# Altium schematic symbol library RD3399-20181013_Library.SchLib: 411 symbols (part 3 of 13)
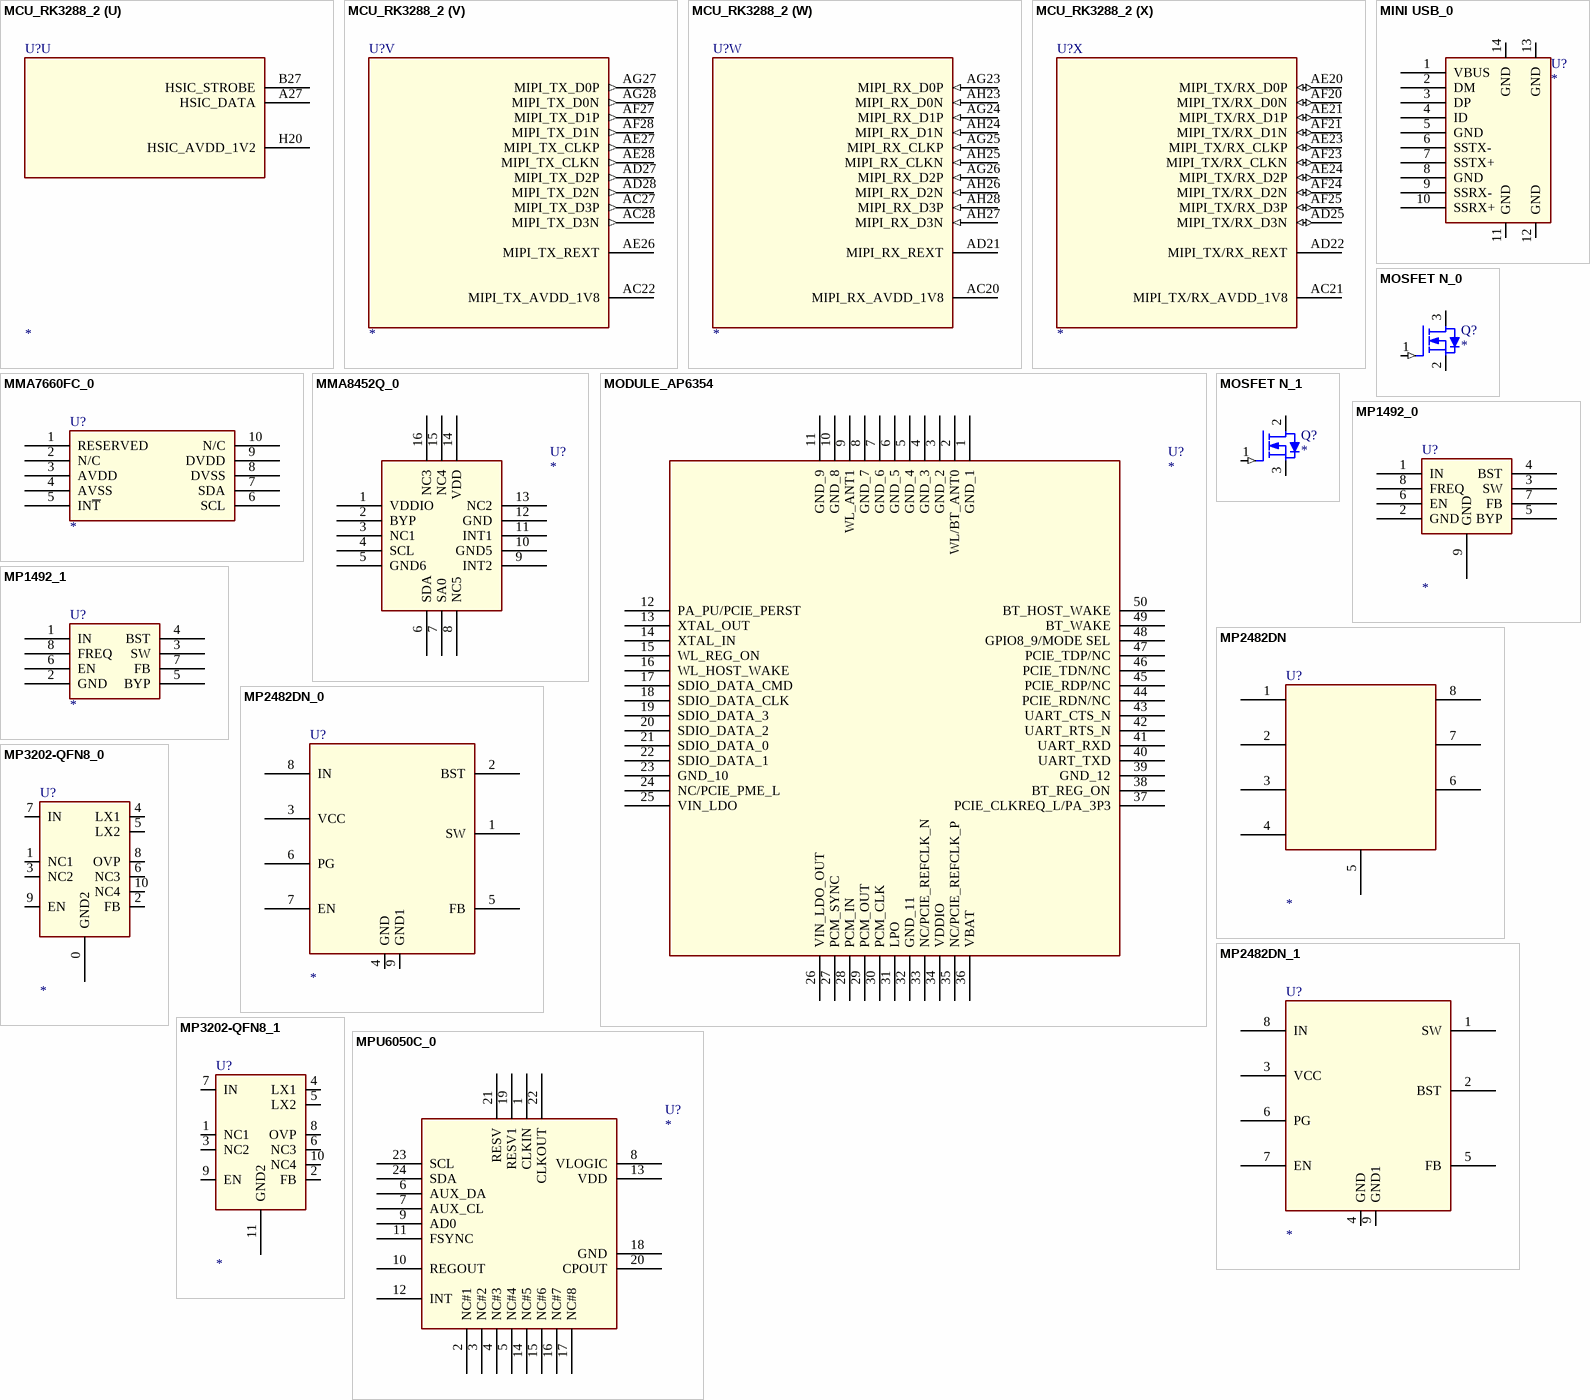
[diagram p187: symbols MCU_RK3288_2 to MPU6050C_0]

## MCU_RK3288_2
designator U?
footprint BGA453-19X19
part A pins: AA20 LVDS_AVDD_1V0 (power), AA22 LCDC0_DEN/GPIO1_D2_d (io), AA23 LCDC0_HSYNC/GPIO1_D0_d (io), AA24 LCDC0_DCLK/GPIO1_D3_d (io), AA25 TRACE_CLK/LCDC0_D16/LVDS_D7P (io), AA26 TRACE_CTL/LCDC0_D17/LVDS_D7N (io), AA27 TRACE_D8/LCDC0_D8/LVDS_D4P (io), AA28 TRACE_D9/LCDC0_D9/LVDS_D4N (io), AB21 LVDS_AVDD_1V8 (power), AB23 LVDS_AVDD_3V3 (power), AB24 LCDC0_VSYNC/GPIO1_D1_d (io), AB27 LCDC0_D18/LVDS_D8P (io), AB28 LCDC0_D19/LVDS_D8N (io), AC25 LCDC0_D20/LVDS_D9P (io), AC26 LCDC0_D21/LVDS_D9N (io), T27 TRACE_D0/LCDC0_D0/LVDS_D0P (io), T28 TRACE_D1/LCDC0_D1/LVDS_D0N (io), U25 TRACE_D12/LCDC0_D12/LVDS_D5P (io), U26 TRACE_D13/LCDC0_D13/LVDS_D5N (io), U27 TRACE_D2/LCDC0_D2/LVDS_D1P (io), U28 TRACE_D3/LCDC0_D3/LVDS_D1N (io), V24 LVDS_EXTR, V25 TRACE_D14/LCDC0_D14/LVDS_D6P (io), V26 TRACE_D15/LCDC0_D15/LVDS_D6N (io), V27 TRACE_D10/LCDC0_D10/LVDS_CLK0P (io), V28 TRACE_D11/LCDC0_D11/LVDS_CLK0N (io), W27 TRACE_D4/LCDC0_D4/LVDS_D2P (io), W28 TRACE_D5/LCDC0_D5/LVDS_D2N (io), Y25 LCDC0_D22/LVDS_CLK1P (io), Y26 LCDC0_D23/LVDS_CLK1N (io), Y27 TRACE_D6/LCDC0_D6/LVDS_D3P (io), Y28 TRACE_D7/LCDC0_D7/LVDS_D3N (io)
part B pins: AB9 JTAG_TCK/SDMMC0_D3/GPIO6_C3_u (io), AC8 SDMMC0_CMD/GPIO6_C5_u (io), AC9 SDMMC0_VDD (power), AD8 JTAG_TDI/SDMMC0_D2/GPIO6_C2_u (io), AG6 JTAG_TDO/SDMMC0_CLKOUT/GPIO6_C4_d (io), AG7 JTAG_TMS/SDMMC0_D0/GPIO6_C0_u (io), AH5 SDMMC0_DET/GPIO6_C6_u (io), AH6 JTAG_TRSTN/SDMMC0_D1/GPIO6_C1_u (io)
part C pins: P22 I2C3_SCL/GPIO2_C0_u (io), R21 CIF_D11/GPIO2_B7_d (io), R22 HOST_WKREQ/TS_FAIL/CIF_CLKOUT/GPIO2_B3_d (io), R23 I2C3_SDA/GPIO2_C1_u (io), R24 CIF_D10/GPIO2_B6_d (io), R25 HOST_D6/TS_SYNC/CIF_VSYNC/GPIO2_B0_d (io), R26 CIF_D1/GPIO2_B5_d (io), R27 CIF_D0/GPIO2_B4_d (io), R28 HOST_D7/TS_VALID/CIF_HREF/GPIO2_B1_d (io), U20 DVPIO_VDD (power), U21 HOST_CKINN/TS_D5/CIF_D7/GPIO2_A5_d (io), U22 HOST_CKINP/TS_D4/CIF_D6/GPIO2_A4_d (io), U23 HOST_D4/TS_D6/CIF_D8/GPIO2_A6_d (io), V21 HOST_D3/TS_D3/CIF_D5/GPIO2_A3_d (io), V22 HOST_WKACK/GPS_CLK/TS_CLKOUT/CIF_CLKIN/GPIO2_B2_d (io), V23 HOST_D5/TS_D7/CIF_D9/GPIO2_A7_d (io), Y21 HOST_D1/TS_D1/CIF_D3/GPIO2_A1_d (io), Y22 HOST_D2/TS_D2/CIF_D4/GPIO2_A2_d (io), Y23 HOST_D0/TS_D0/CIF_D2/GPIO2_A0_d (io)
part D pins: J26 DDRIO_RETEN/PMUGPIO0_A2_u (io), J27 DDRIO_PWROFF/PMUGPIO0_A1_d (io), J28 GLOBAL_PWROFF/PMUGPIO0_A0_d (io), K27 EFUSE_PWREN/PMUGPIO0_A3_u (io), K28 PMUGPIO0_A4_u, L21 PMUGPIO0_A5_u, L22 PMUGPIO0_A6_u (io), L23 PMUGPIO0_A7_u (io), L24 PMUGPIO0_B0_u, L25 PMUGPIO0_B1_u, L26 OTP_OUT/PMUGPIO0_B2_d (io), L27 PMUGPIO0_B3_d (io), L28 CLK27M_IN/PMUGPIO0_B5_d (io), M20 PMU_VDD_1V0 (power), M21 I2C0_SCL/PMUGPIO0_C0_u (io), M22 PMUGPIO0_B6_d (io), M23 TEST_CLKO/CLK_27M_T1/PMUGPIO0_C1_d (io), M24 PMUGPIO0_C2_u (io), M25 I2C0_SDA/PMUGPIO0_B7_u (io), M26 TEST, M27 NPOR (in), M28 PMUGPIO0_B4_d (io), N27 OSC_XI (in), N28 OSC_XO (out), P19 EFUSE_VQPS (power), P20 PUMIO_VDD (power), P25 CLKIN_32K (in), P26 OSC_XVSS (power), P27 PLL_AVSS (power), P28 PLL_AVDD_1V0 (power)
part E pins: A22 HOST2_DM (io), A23 HOST1_DM (io), A26 OTG_DM (io), B21 USB_AVSS4 (power), B22 HOST2_DP (io), B23 HOST1_DP (io), B26 OTG_DP (io), C21 HOST2_EXTR, C23 HOST1_EXTR, C24 USB_AVSS2 (power), C25 OTG_ID, C26 USB_AVSS3 (power), D21 OTG_EXTR, D23 OTG_VBUS, E21 USB_AVDD_1V8 (power), F20 USB_AVDD_3V3 (power), G18 USB_AVDD_1V0 (power), H18 USB_AVSS1 (power)
part F pins: D28 GPIO7_A2_d (io), E26 GPIO7_A4_u (io), E27 GPS_MAG/HSADC_D0_T1/UART3_RX/GPIO7_A7_u, E28 eDP_HOTPLUG/GPIO7_B3_d (io), F25 GPIO7_A3_d (io), F26 GPIO7_A6_u (io), F27 UART3_RTSn/GPIO7_B2_u (io), F28 ISP_PRELIGHTTRIG/SPI1_RXD/GPIO7_B6_d (io), G23 PWM1/GPIO7_A1_d (io), G24 GPIO7_A5_d (io), G27 ISP_SHUTTERTRIG/SPI1_TXD/GPIO7_B7_d (io), G28 ISP_FLASHTRIGIN/EDPHDMI_CEC_T1/GPIO7_C0_u (io), H22 PWM0/GPIO7_A0_d (io), H23 GPS_RFCLK/GPS_CLK_T1/UART3_CTSn/GPIO7_B1_u (io), H24 ISP_FLASHTRIGOUT/SPI1_CSN0/GPIO7_B5_u (io), H25 I2C4_SDA/GPIO7_C1_u (io), H26 I2C5_SDA/EDPHDMI_I2C_SDA/GPIO7_C3_u (io), H27 GPIO7_C5_d (io), H28 UART2_TX/IR_TX/PWM3/EDPHDMI_CEC/GPIO7_C7_u (io), J21 GPS_SIG/HSADC_D1_T1/UART3_TX/GPIO7_B0_d (io), J22 ISP_SHUTTEREN/SPI1_CLK/GPIO7_B4_d (io), J23 I2C4_SCL/GPIO7_C2_u (io), J24 I2C5_SCL/EDPHDMI_I2C_SCL/GPIO7_C4_u (io), J25 UART2_RX/IR_RX/PWM2/GPIO7_C6_u, L20 APIO1_VDD (power)
part G pins: A28 I2C1_SDA/SC_RST/GPIO8_A4_u (io), B28 SPI2_CSn1/SC_IO/GPIO8_A3_u (io), C27 PS2_DATA/GPIO8_A1_u (io), C28 SPI2_TXD/SC_CLK_T1/GPIO8_B1_d (io), D24 PS2_CLK/GPIO8_A0_u (io), D26 SPI2_CLK/SC_IO_T1/GPIO8_A6_d (io), D27 SPI2_CSn0/SC_DET_T1/GPIO8_A7_u (io), E22 BS_JTAG_TRSTn (out), E23 BS_JTAG_TCK (out), E25 I2C1_SCL/SC_CLK/GPIO8_A5_u (io), F21 BS_JTAG_TDI (in), F22 BS_JTAG_TDO (out), F24 SPI2_RXD/SC_RST_T1/GPIO8_B0_d (io), G20 BS_JTAG_TMS (out), G21 SC_DET/GPIO8_A2_u (io), J20 APIO2_VDD (power)
part H pins: AA11 APIO3_VDD (power), AB11 UART0_RTSn/GPIO4_C3_u (io), AB12 UART0_CTSn/GPIO4_C2_u (io), AC11 SDIO0_PWR/GPIO4_D4_d (io), AD9 GPIO4_D7_u (io), AE8 SDIO0_INTn/GPIO4_D6_u (io), AE9 SDIO0_WP/GPIO4_D3_d (io), AF8 SDIO0_BKPWR/GPIO4_D5_d (io), AF9 SDIO0_DET/GPIO4_D2_u (io), AG8 SDIO0_CLKOUT/GPIO4_D1_d (io), AG9 SDIO0_D2/GPIO4_C6_u (io), AG10 UART0_TXD/GPIO4_C1_d (io), AH7 SDIO0_D3/GPIO4_C7_u (io), AH8 SDIO0_CMD/GPIO4_D0_u (io), AH9 SDIO0_D0/GPIO4_C4_u (io), AH10 SDIO0_D1/GPIO4_C5_u (io), AH11 UART0_RXD/GPIO4_C0_u (io)
part I pins: AC12 I2S_CLK/GPIO6_B0_d (io), AD11 I2S_SCLK/GPIO6_A0_d (io), AD12 I2C2_SCL/GPIO6_B2_u (io), AE11 I2S_SDI/GPIO6_A3_d (io), AE12 SPDIF_TX/GPIO6_B3_d (io), AF11 I2S_LRCK_TX/GPIO6_A2_d (io), AF12 I2C2_SDA/GPIO6_B1_u (io), AG11 I2S_LRCK_RX/GPIO6_A1_d (io), AG12 I2S_SDO0/GPIO6_A4_d (io), AG13 I2S_SDO2/GPIO6_A6_d (io), AH12 I2S_SDO3/GPIO6_A7_d (io), AH13 I2S_SDO1/GPIO6_A5_d (io), Y12 APIO4_VDD (power)
part J pins: AA7 UART1_TX/TS0_D1/GPIO5_B1_d (io), AA9 TS0_VALID/GPIO5_C1_d (io), AB8 TS0_ERR/GPIO5_C3_d (io), AC7 SPI0_CSn0/UART4_RTSn/TS0_D5/GPIO5_B5_u (io), AD6 UART1_RTSn/TS0_D3/GPIO5_B3_u (io), AD7 SPI0_CLK/UART4_CTSn/TS0_D4/GPIO5_B4_u (io), AE5 SPI0_TXD/UART4_TX/TS0_D6/GPIO5_B6_d, AE6 TS0_CLK/GPIO5_C2_d (io), AF5 UART1_RX/TS0_D0/GPIO5_B0_u, AF6 SPI0_RXD/UART4_RX/TS0_D7/GPIO5_B7_u, AG5 SPI0_CSn1/TS0_SYNC/GPIO5_C0_u (io), AH4 UART1_CTSn/TS0_D2/GPIO5_B2_u (io), Y11 APIO5_VDD (power)
part K pins: A1 DDR0_DQ25 (io), A2 DDR0_DQ24 (io), A3 DDR0_DQ10 (io), A4 DDR0_DQS3n (out), A5 DDR0_DQ9 (io), A6 DDR0_DQ13 (io), A7 DDR0_DQS1n (out), A8 DDR0_CASn (out), A9 DDR0_BA1 (out), A10 DDR0_A2 (out), A11 DDR0_CLKn (out), A12 DDR0_A7 (out), A13 DDR0_A10 (out), A14 DDR0_A9 (out), A15 DDR0_DM2 (out), A16 DDR0_DQ17 (io), A17 DDR0_DQS2n (out), A18 DDR0_DQ23 (io), A19 DDR0_DQ4 (io), A20 DDR0_DQS0 (out), B3 DDR0_DM3 (out), B4 DDR0_DQS3 (out), B5 DDR0_DQ8 (io), B6 DDR0_DQ14 (io), B7 DDR0_DQS1 (out), B8 DDR0_CSn0 (out), B9 DDR0_WEn (out), B10 DDR0_A0 (out), B11 DDR0_CLK (out), B12 DDR0_A5 (out), B13 DDR0_A8 (out), B14 DDR0_A14 (out), B15 DDR0_DQ16 (io), B16 DDR0_DQ19 (io), B17 DDR0_DQS2 (out), B18 DDR0_DQ21 (io), B19 DDR0_DQ0 (io), B20 DDR0_DQS0n (out), C4 DDR0_DQ30 (io), C5 DDR0_DQ28 (io), C6 DDR0_DQ11 (io), C8 DDR0_CKE1 (out), C9 DDR0_CKE0 (out), C11 DDR0_A1 (out), C12 DDR0_A6 (out), C14 DDR0_A13 (out), C15 DDR0_A15 (out), C17 DDR0_DQ22 (io), C18 DDR0_DQ1 (io), C20 DDR0_DQ6 (io), D5 DDR0_DQ26 (io), D8 DDR0_BA0 (out), D11 DDR0_RASn (out), D14 DDR0_A11 (out), D17 DDR0_DQ20 (io), D20 DDR0_DQ7 (io), E6 DDR0_DQ27 (io), E7 DDR0_DQ31 (io), E8 DDR0_DQ12 (io), E9 DDR0_RESET (out), E11 DDR0_BA2 (out), E12 DDR0_A3 (out), E14 DDR0_ODT0 (out), E15 DDR0_ODT1 (out), E17 DDR0_DM0 (out), E18 DDR0_DQ5 (io), F7 DDR0_DQ29 (io), F8 DDR0_DQ15 (io), F9 DDR0_DM1 (out), F11 DDR0_CSn1 (out), F12 DDR0_A4 (out), F14 DDR0_A12 (out), F15 DDR0_DQ18 (io), F17 DDR0_DQ2 (io), F18 DDR0_DQ3 (io), G8 DDR0_RETLE, G11 NC3, G12 DDR0_ATO, G14 NC1, G15 NC2, G17 DDR0_PZQ, H9 DDR0_VDD1 (power), H11 DDR0_VREFAO (power), H12 DDR0_VREF (power), H14 DDR0_VDDAO (power), H15 DDR0_DTO1, H17 DDR0_DTO0, J11 DDR0_VDD2 (power), J12 DDR0_VDD3 (power), J14 DDR0_VDD4 (power), J15 DDR0_VDD5 (power)
part L pins: AA1 DDR1_DQS0n (out), AA2 DDR1_DQS0 (out), B1 DDR1_DQ24 (io), B2 DDR1_DQ25 (io), C1 DDR1_DQ10 (io), C2 DDR1_DQ30 (io), D1 DDR1_DQS3n (out), D2 DDR1_DQS3 (out), D3 DDR1_DM3 (out), E1 DDR1_DQ9 (io), E2 DDR1_DQ8 (io), E3 DDR1_DQ28 (io), E4 DDR1_DQ26 (io), F1 DDR1_CKE0 (out), F2 DDR1_RESET (out), F3 DDR1_DQ11 (io), F5 DDR1_DQ29 (io), G1 DDR1_DQS1n (out), G2 DDR1_DQS1 (out), G5 DDR1_DM1 (out), G6 DDR1_DQ27 (io), H1 DDR1_CASn (out), H2 DDR1_CSn0 (out), H3 DDR1_CKE1 (out), H4 DDR1_DQ13 (io), H5 DDR1_DQ12 (io), H6 DDR1_DQ31 (io), H7 DDR1_RETLE, J1 DDR1_BA1 (out), J2 DDR1_WEn (out), J3 DDR1_CSn1 (out), J5 DDR1_DQ14 (io), J6 DDR1_DQ15 (io), J8 DDR1_VDD1 (power), K1 DDR1_A2 (out), K2 DDR1_A1 (out), L1 DDR1_CLKn (out), L2 DDR1_CLK (out), L3 DDR1_A0 (out), L4 DDR1_BA0 (out), L5 DDR1_BA2 (out), L6 DDR1_RASn (out), L7 NC6, L8 DDR1_VREFAO (power), L9 DDR1_VDD2 (power), M1 DDR1_A6 (out), M2 DDR1_A5 (out), M3 DDR1_A7 (out), M5 DDR1_A3 (out), M6 DDR1_A4 (out), M7 DDR1_ATO, M8 DDR1_VREF (power), M9 DDR1_VDD3 (power), N1 DDR1_A8 (out), N2 DDR1_A10 (out), P1 DDR1_A9 (out), P2 DDR1_A14 (out), P3 DDR1_A13 (out), P4 DDR1_A11 (out), P5 DDR1_ODT0 (out), P6 DDR1_A12 (out), P7 NC4, P8 DDR1_VDDAO (power), P9 DDR1_VDD4 (power), R1 DDR1_A15 (out), R2 DDR1_ODT1 (out), R3 DDR1_DM2 (out), R5 DDR1_DQ19 (io), R6 DDR1_DQ17 (io), R7 NC5, R8 DDR1_DTO1, R9 DDR1_VDD5 (power), T1 DDR1_DQ18 (io), T2 DDR1_DQ16 (io), U1 DDR1_DQS2n (out), U2 DDR1_DQS2 (out), U3 DDR1_DQ22 (io), U4 DDR1_DQ20 (io), U5 DDR1_DM0 (out), U6 DDR1_DQ3 (io), U7 DDR1_PZQ, U8 DDR1_DTO0, V1 DDR1_DQ21 (io), V2 DDR1_DQ23 (io), V3 DDR1_DQ1 (io), V5 DDR1_DQ6 (io), W1 DDR1_DQ4 (io), W2 DDR1_DQ0 (io), Y1 DDR1_DQ2 (io), Y2 DDR1_DQ5 (io), Y3 DDR1_DQ7 (io)
part M pins: A21 VSS9 (power), AC24 VSS11 (power), C3 VSS1 (power), D6 VSS2 (power), D9 VSS3 (power), D12 VSS4 (power), D15 VSS5 (power), D18 VSS6 (power), E20 VSS7 (power), F4 VSS12 (power), J4 VSS13 (power), J9 VSS14 (power), J17 VSS16 (power), J18 VSS28 (power), K10 VSS18 (power), K11 VSS19 (power), K12 VSS20 (power), K13 VSS21 (power), K14 VSS22 (power), K15 VSS23 (power), K16 VSS24 (power), K17 VSS25 (power), K18 VSS26 (power), K19 VSS27 (power), L10 VSS29 (power), L11 VSS30 (power), L13 VSS31 (power), L14 VSS32 (power), L15 VSS33 (power), M4 VSS34 (power), M10 VSS35 (power), M11 VSS36 (power), M13 VSS37 (power), M14 VSS38 (power), N10 VSS40 (power), N11 VSS41 (power), N13 VSS42 (power), N14 VSS43 (power), N15 VSS44 (power), P10 VSS45 (power), P11 VSS46 (power), P13 VSS47 (power), P14 VSS48 (power), P15 VSS49 (power), P16 VSS50 (power), P17 VSS51 (power), P18 VSS52 (power), R4 VSS53 (power), R10 VSS54 (power), R13 VSS55 (power), R14 VSS61 (power), R15 VSS71 (power), R16 VSS56 (power), R17 VSS57 (power), R18 VSS58 (power), R19 VSS59 (power), T10 VSS60 (power), T13 VSS62 (power), T15 VSS64 (power), T16 VSS65 (power), T17 VSS66 (power), T18 VSS67 (power), T19 VSS68 (power), U9 VSS15 (power), U10 VSS70 (power), U13 VSS72 (power), U24 VSS8 (power), V4 VSS73 (power), V9 VSS69 (power), V10 VSS74 (power), V11 VSS75 (power), V12 VSS76 (power), V13 VSS77 (power), W10 VSS17 (power), W11 VSS78 (power), W12 VSS79 (power), W13 VSS80 (power), W14 VSS81 (power), W15 VSS82 (power), W16 VSS83 (power), W17 VSS84 (power), W18 VSS85 (power), W19 VSS86 (power), Y18 VSS39 (power), Y20 VSS63 (power), Y24 VSS10 (power)
part N pins: AA12 eDP_TP_OUT, AA17 eDP_AVDD_1V8 (power), AC17 eDP_CLK24M_IN, AC18 eDP_EXTR, AG14 eDP_TX0P (out), AG15 eDP_TX1P (out), AG16 eDP_TX2P (out), AG17 eDP_TX3P (out), AG18 eDP_AXUP (out), AH14 eDP_TX0N (out), AH15 eDP_TX1N (out), AH16 eDP_TX2N (out), AH17 eDP_TX3N (out), AH18 eDP_AXUN (out), Y17 eDP_AVDD_1V0 (power)
part O pins: AA18 HDMI_AVDD_1V0 (power), AB17 HDMI_EXTR, AB18 HDMI_HPD_d, AB20 HDMI_AVDD_1V8 (power), AD20 AVSS5 (power), AD23 AVSS6 (power), AD26 AVSS7 (power), AF14 AVSS1 (power), AF15 AVSS2 (power), AF17 AVSS3 (power), AF18 AVSS4 (power), AF26 AVSS8 (power), AG19 HDMI_TXCP (out), AG20 HDMI_TX0P (out), AG21 HDMI_TX1P (out), AG22 HDMI_TX2P (out), AH19 HDMI_TXCN (out), AH20 HDMI_TX0N (out), AH21 HDMI_TX1N (out), AH22 HDMI_TX2N (out)
part P pins: AB6 FLASH0_DQS/EMMC_CLKOUT/GPIO3_C2_d (io), AC4 FLASH0_CSn2/EMMC_CMD/GPIO3_C0_u (io), AC5 FLASH0_CSn0/GPIO3_B6_u (io), AD3 FLASH0_D1/EMMC_D1/GPIO3_A1_u (io), AD4 FLASH0_CSn1/GPIO3_B7_u (io), AE3 FLASH0_D0/EMMC_D0/GPIO3_A0_u (io), AF1 FLASH0_D3/EMMC_D3/GPIO3_A3_u (io), AF2 FLASH0_D4/EMMC_D4/GPIO3_A4_u (io), AF3 FLASH0_D2/EMMC_D2/GPIO3_A2_u (io), AF4 FLASH0_ALE/GPIO3_B3_d (io), AG1 FLASH0_D6/EMMC_D6/GPIO3_A6_u (io), AG2 FLASH0_D7/EMMC_D7/GPIO3_A7_u (io), AG3 FLASH0_D5/EMMC_D5/GPIO3_A5_u (io), AG4 FLASH0_WRN/GPIO3_B5_u (io), AH1 FLASH0_WP/EMMC_PWREN/GPIO3_B1_d (io), AH2 FLASH0_RDY/GPIO3_B0_u (io), AH3 FLASH0_CLE/GPIO3_B4_d (io), Y6 FLASH0_RDN/GPIO3_B2_u (io), Y7 FLASH0_CSn3/EMMC_RSTNOUT/GPIO3_C1_u (io), Y8 FLASH0_VOLTAGE_SEL/GPIO3_C3_d (io), Y9 FLASH0_VDD (power)
part Q pins: AA3 HOST_D6/MAC_RXD0/SDIO1_BKPWR/FLASH1_D6/GPIO3_D6_u (io), AA4 HOST_D7/MAC_RXD1/SDIO1_INTn/FLASH1_D7/GPIO3_D7_u (io), AA5 HOST_D14/MAC_COL/FLASH1_DQS/FLASH1_CSn3/GPIO4_B0_u (io), AA6 HOST_D13/MAC_CRS/SDIO1_CLKOUT/FLASH1_CSn1/GPIO4_A7_u (io), AB1 HOST_D2/MAC_RXD2/SDIO1_D2/FLASH1_D2/GPIO3_D2_u (io), AB2 HOST_D5/MAC_TXD1/SDIO1_WRPRT/FLASH1_D5/GPIO3_D5_u (io), AB5 HOST_D12/MAC_RXCLK/SDIO1_CMD/FLASH1_CSn0/GPIO4_A6_u (io), AC1 HOST_D3/MAC_RXD3/SDIO1_D3/FLASH1_D3/GPIO3_D3_u (io), AC2 HOST_CKOUTN/MAC_RXDV/FLASH0_CSn4/FLASH1_WP/GPIO4_A1_u (io), AC3 HOST_CKOUTP/MAC_MDC/FLASH1_RDY/GPIO4_A0_u (io), AD1 HOST_D4/MAC_TXD0/SDIO1_DET/FLASH1_D4/GPIO3_D4_u (io), AD2 HOST_D10/MAC_TXEN/FLASH0_CSn7/FLASH1_CLE/GPIO4_A4_u (io), AE1 HOST_D8/MAC_RXER/FLASH0_CSn5/FLASH1_RDN/GPIO4_A2_u (io), AE2 HOST_D9/MAC_CLK/FLASH0_CSn6/FLASH1_ALE/GPIO4_A3_u (io), V6 HOST_D1/MAC_TXD3/SDIO1_D1/FLASH1_D1/GPIO3_D1_u (io), V7 HOST_D15/MAC_TXCLK/SDIO1_PWREN/FLASH1_CSn2/GPIO4_B1_u (io), V8 FLASH1_VDD (power), Y4 HOST_D0/MAC_TXD2/SDIO1_D0/FLASH1_D0/GPIO3_D0_u (io), Y5 HOST_D11/MAC_MDIO/FLASH1_WRN/GPIO4_A5_u (io)
part R pins: L12 LOGIC_VDD1 (power), L16 GPU_VDD1 (power), L17 GPU_VDD2 (power), L18 GPU_VDD3 (power), L19 GPU_VDD4 (power), M12 LOGIC_VDD2 (power), M15 GPU_VDD_COM, M16 GPU_VDD5 (power), M17 GPU_VDD6 (power), M18 GPU_VDD7 (power), M19 GPU_VDD8 (power), N12 LOGIC_VDD3 (power), N16 GPU_VDD9 (power), N17 GPU_VDD10 (power), N18 GPU_VDD11 (power), N19 GPU_VDD12 (power), P12 LOGIC_VDD4 (power), R11 LOGIC_VDD8 (power), R12 LOGIC_VDD5 (power), T11 LOGIC_VDD9 (power), T12 LOGIC_VDD6 (power), T14 CPU_VDD_COM, U11 LOGIC_VDD10 (power), U12 LOGIC_VDD7 (power), U14 CPU_VDD1 (power), U15 CPU_VDD2 (power), U16 CPU_VDD3 (power), U17 CPU_VDD4 (power), U18 CPU_VDD5 (power), U19 CPU_VDD6 (power), V14 CPU_VDD7 (power), V15 CPU_VDD8 (power), V16 CPU_VDD9 (power), V17 CPU_VDD10 (power), V18 CPU_VDD11 (power), V19 CPU_VDD12 (power), V20 LCDC_VDD (power)
part S pins: A24 NC11 (in), A25 NC9 (out), AA14 NC28 (power), AA15 NC18 (power), AB14 NC14 (out), AB15 NC13 (out), AC14 NC16 (in), AC15 NC15 (in), AD14 NC20 (in), AD15 NC24 (out), AD17 NC22 (in), AD18 NC26 (out), AE14 NC19 (in), AE15 NC23 (out), AE17 NC21 (in), AE18 NC25 (out), B24 NC12 (in), B25 NC10 (out), G9 NC7, J7 NC8, Y14 NC27 (power), Y15 NC17 (power)
part T pins: P21 RECOVER/ADC_IN1 (in), P23 ADC_IN2 (in), P24 ADC_IN0 (in), R20 ADC_AVDD_1V8 (power)
part U pins: A27 HSIC_DATA, B27 HSIC_STROBE, H20 HSIC_AVDD_1V2 (power)
part V pins: AC22 MIPI_TX_AVDD_1V8 (power), AC27 MIPI_TX_D3P (out), AC28 MIPI_TX_D3N (out), AD27 MIPI_TX_D2P (out), AD28 MIPI_TX_D2N (out), AE26 MIPI_TX_REXT, AE27 MIPI_TX_CLKP (out), AE28 MIPI_TX_CLKN (out), AF27 MIPI_TX_D1P (out), AF28 MIPI_TX_D1N (out), AG27 MIPI_TX_D0P (out), AG28 MIPI_TX_D0N (out)
part W pins: AC20 MIPI_RX_AVDD_1V8 (power), AD21 MIPI_RX_REXT, AG23 MIPI_RX_D0P (in), AG24 MIPI_RX_D1P (in), AG25 MIPI_RX_CLKP (in), AG26 MIPI_RX_D2P (in), AH23 MIPI_RX_D0N (in), AH24 MIPI_RX_D1N (in), AH25 MIPI_RX_CLKN (in), AH26 MIPI_RX_D2N (in), AH27 MIPI_RX_D3N (in), AH28 MIPI_RX_D3P (in)
part X pins: AC21 MIPI_TX/RX_AVDD_1V8 (power), AD22 MIPI_TX/RX_REXT, AD25 MIPI_TX/RX_D3N (io), AE20 MIPI_TX/RX_D0P (io), AE21 MIPI_TX/RX_D1P (io), AE23 MIPI_TX/RX_CLKP (io), AE24 MIPI_TX/RX_D2P (io), AF20 MIPI_TX/RX_D0N (io), AF21 MIPI_TX/RX_D1N (io), AF23 MIPI_TX/RX_CLKN (io), AF24 MIPI_TX/RX_D2N (io), AF25 MIPI_TX/RX_D3P (io)
part A text: LCDC domain; LVDS domain

## MINI USB_0
designator U?
pins: 1 VBUS, 2 DM, 3 DP, 4 ID, 5 GND, 6 SSTX-, 7 SSTX+, 8 GND (power), 9 SSRX-, 10 SSRX+, 11 GND, 12 GND, 13 GND, 14 GND

## MMA7660FC_0
designator U?
pins: 1 RESERVED, 2 N/C, 3 AVDD, 4 AVSS, 5 IN~{T}, 6 SCL, 7 SDA, 8 DVSS, 9 DVDD, 10 N/C

## MMA8452Q_0
designator U?
footprint QFN16_COL
pins: 1 VDDIO, 2 BYP, 3 NC1, 4 SCL, 5 GND6, 6 SDA, 7 SA0, 8 NC5, 9 INT2, 10 GND5, 11 INT1, 12 GND, 13 NC2, 14 VDD, 15 NC4, 16 NC3

## MODULE_AP6354
designator U?
pins: 1 GND_1, 2 WL/BT_ANT0, 3 GND_2, 4 GND_3, 5 GND_4, 6 GND_5, 7 GND_6, 8 GND_7, 9 WL_ANT1, 10 GND_8, 11 GND_9, 12 PA_PU/PCIE_PERST, 13 XTAL_OUT, 14 XTAL_IN, 15 WL_REG_ON, 16 WL_HOST_WAKE, 17 SDIO_DATA_CMD, 18 SDIO_DATA_CLK, 19 SDIO_DATA_3, 20 SDIO_DATA_2, 21 SDIO_DATA_0, 22 SDIO_DATA_1, 23 GND_10, 24 NC/PCIE_PME_L, 25 VIN_LDO, 26 VIN_LDO_OUT, 27 PCM_SYNC, 28 PCM_IN, 29 PCM_OUT, 30 PCM_CLK, 31 LPO, 32 GND_11, 33 NC/PCIE_REFCLK_N, 34 VDDIO, 35 NC/PCIE_REFCLK_P, 36 VBAT, 37 PCIE_CLKREQ_L/PA_3P3, 38 BT_REG_ON, 39 GND_12, 40 UART_TXD, 41 UART_RXD, 42 UART_RTS_N, 43 UART_CTS_N, 44 PCIE_RDN/NC, 45 PCIE_RDP/NC, 46 PCIE_TDN/NC, 47 PCIE_TDP/NC, 48 GPIO8_9/MODE SEL, 49 BT_WAKE, 50 BT_HOST_WAKE

## MOSFET N_0
designator Q?
pins: 1 GATE (in), 2 SOURCE, 3 DRAIN

## MOSFET N_1
designator Q?
pins: 1 GATE (in), 2 DRAIN, 3 SOURCE

## MP1492_0
designator U?
footprint SOP8A
pins: 1 IN, 2 GND, 3 SW, 4 BST, 5 BYP, 6 EN, 7 FB, 8 FREQ, 9 GND

## MP1492_1
designator U?
footprint SOP8A
pins: 1 IN, 2 GND, 3 SW, 4 BST, 5 BYP, 6 EN, 7 FB, 8 FREQ

## MP2482DN
designator U?
pins: 1, 2, 3, 4, 5, 6, 7, 8

## MP2482DN_0
designator U?
pins: 1 SW, 2 BST, 3 VCC, 4 GND, 5 FB, 6 PG, 7 EN, 8 IN, 9 GND1

## MP2482DN_1
designator U?
pins: 1 SW, 2 BST, 3 VCC, 4 GND, 5 FB, 6 PG, 7 EN, 8 IN, 9 GND1

## MP3202-QFN8_0
designator U?
footprint QFN8-2X2
pins: 0 GND2, 1 NC1, 2 FB, 3 NC2, 4 LX1, 5 LX2, 6 NC3, 7 IN, 8 OVP, 9 EN, 10 NC4

## MP3202-QFN8_1
designator U?
footprint QFN8-2X2
pins: 1 NC1, 2 FB, 3 NC2, 4 LX1, 5 LX2, 6 NC3, 7 IN, 8 OVP, 9 EN, 10 NC4, 11 GND2

## MPU6050C_0
designator U?
pins: 1 CLKIN, 2 NC#1, 3 NC#2, 4 NC#3, 5 NC#4, 6 AUX_DA, 7 AUX_CL, 8 VLOGIC, 9 AD0, 10 REGOUT, 11 FSYNC, 12 INT, 13 VDD, 14 NC#5, 15 NC#6, 16 NC#7, 17 NC#8, 18 GND, 19 RESV1, 20 CPOUT, 21 RESV, 22 CLKOUT, 23 SCL, 24 SDA

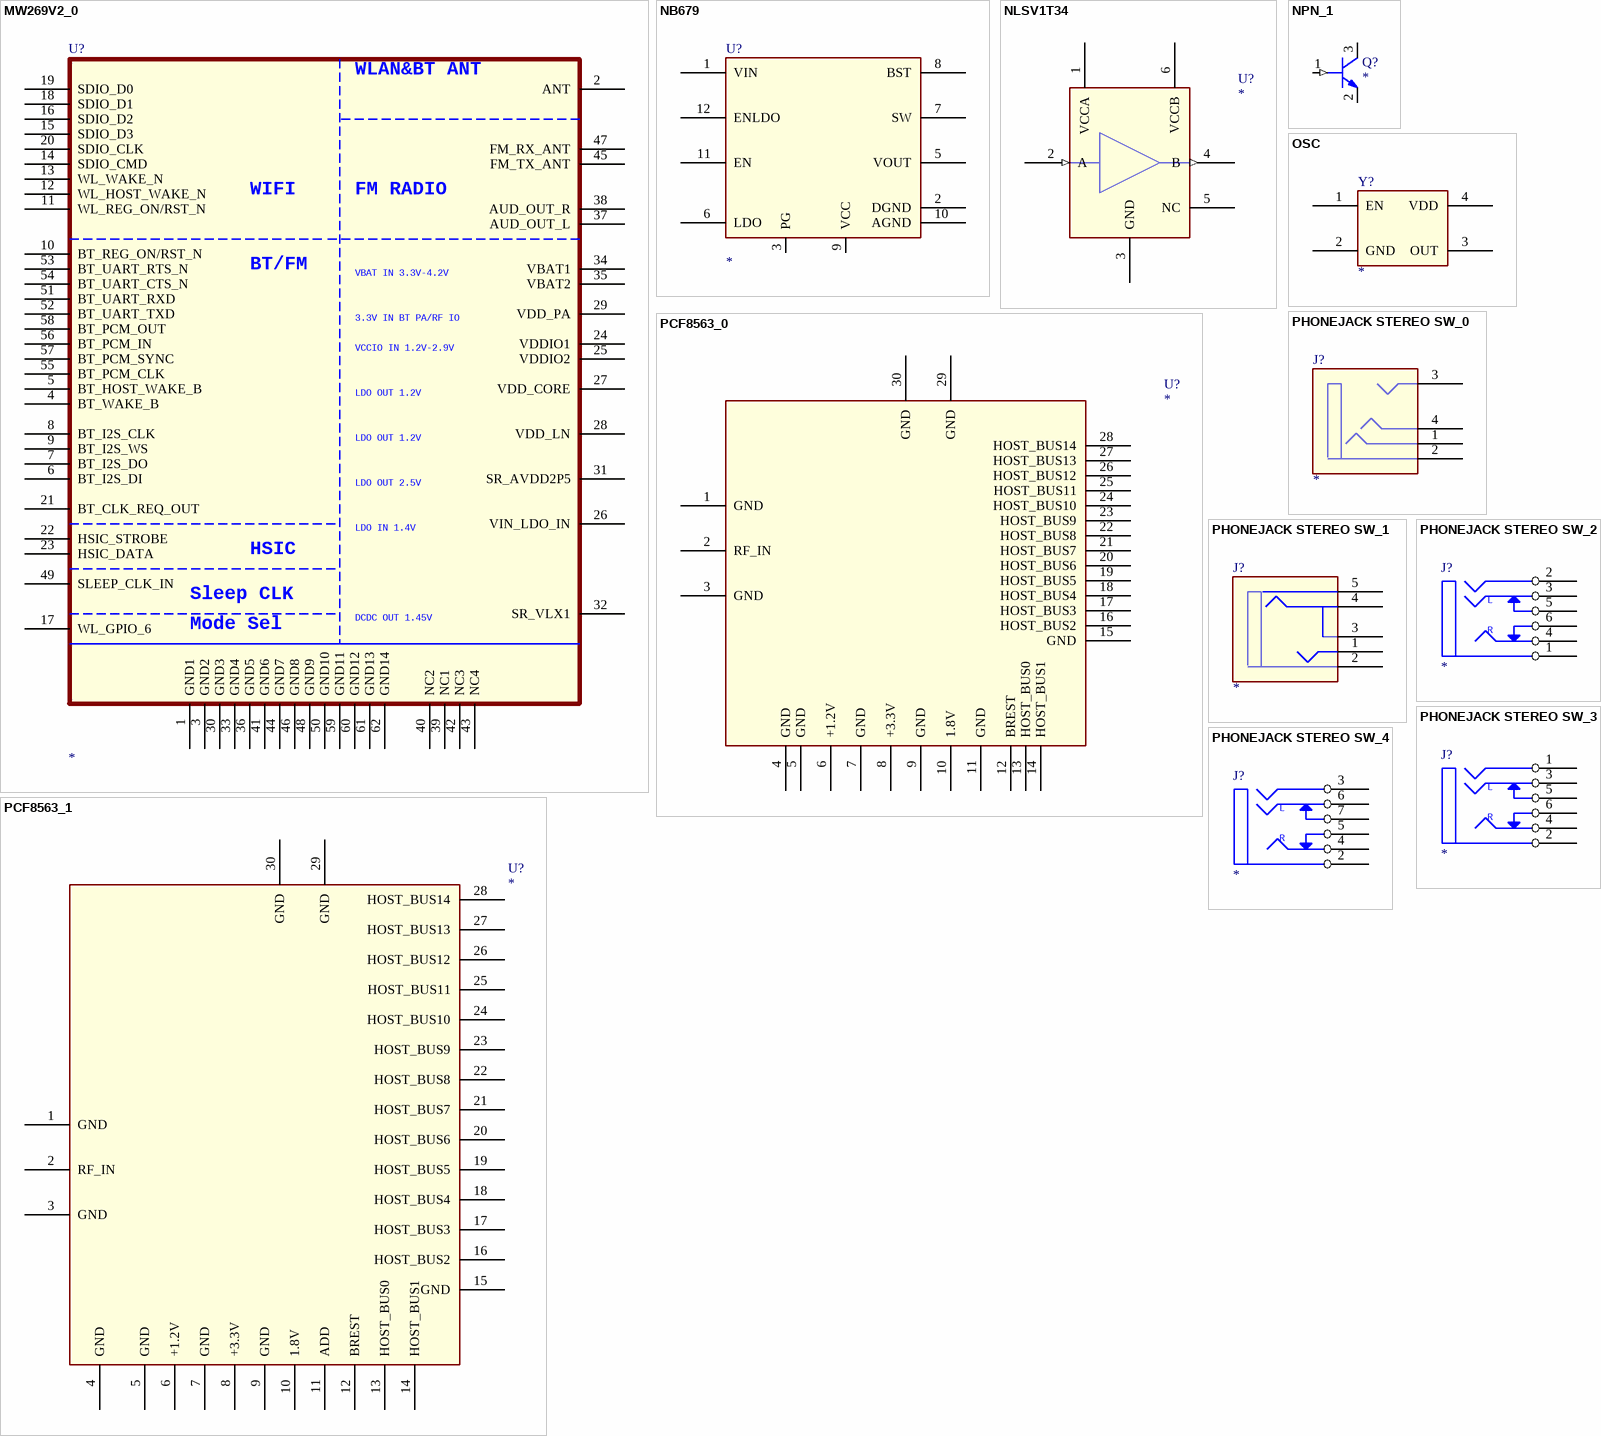
[diagram p25: symbols MW269V2_0 to PHONEJACK STEREO SW_4]

## MW269V2_0
designator U?
footprint MW269V2
pins: 1 GND1, 2 ANT, 3 GND2, 4 BT_WAKE_B, 5 BT_HOST_WAKE_B, 6 BT_I2S_DI, 7 BT_I2S_DO, 8 BT_I2S_CLK, 9 BT_I2S_WS, 10 BT_REG_ON/RST_N, 11 WL_REG_ON/RST_N, 12 WL_HOST_WAKE_N, 13 WL_WAKE_N, 14 SDIO_CMD, 15 SDIO_D3, 16 SDIO_D2, 17 WL_GPIO_6, 18 SDIO_D1, 19 SDIO_D0, 20 SDIO_CLK, 21 BT_CLK_REQ_OUT, 22 HSIC_STROBE, 23 HSIC_DATA, 24 VDDIO1, 25 VDDIO2, 26 VIN_LDO_IN, 27 VDD_CORE, 28 VDD_LN, 29 VDD_PA, 30 GND3, 31 SR_AVDD2P5, 32 SR_VLX1, 33 GND4, 34 VBAT1, 35 VBAT2, 36 GND5, 37 AUD_OUT_L, 38 AUD_OUT_R, 39 NC1, 40 NC2, 41 GND6, 42 NC3, 43 NC4, 44 GND7, 45 FM_TX_ANT, 46 GND8, 47 FM_RX_ANT, 48 GND9, 49 SLEEP_CLK_IN, 50 GND10, 51 BT_UART_RXD, 52 BT_UART_TXD, 53 BT_UART_RTS_N, 54 BT_UART_CTS_N, 55 BT_PCM_CLK, 56 BT_PCM_IN, 57 BT_PCM_SYNC, 58 BT_PCM_OUT, 59 GND11, 60 GND12, 61 GND13, 62 GND14
text: WLAN&BT ANT; WIFI; FM RADIO; BT/FM; VBAT IN 3.3V-4.2V; 3.3V IN BT PA/RF IO; VCCIO IN 1.2V-2.9V; LDO OUT 1.2V; LDO OUT 2.5V; LDO IN 1.4V; HSIC; Sleep CLK; DCDC OUT 1.45V; Mode Sel

## NB679
designator U?
pins: 1 VIN, 2 DGND, 3 PG, 5 VOUT, 6 LDO, 7 SW, 8 BST, 9 VCC, 10 AGND, 11 EN, 12 ENLDO

## NLSV1T34
designator U?
CLASS: IC
pins: 1 VCCA (power), 2 A (in), 3 GND (power), 4 B (out), 5 NC, 6 VCCB (power)

## NPN_1
designator Q?
pins: 1 BASE (in), 2 EMITTER, 3 COLLECT

## OSC
designator Y?
footprint OSC3225
pins: 1 EN, 2 GND, 3 OUT, 4 VDD

## PCF8563_0
designator U?
footprint SOP-8
pins: 1 GND, 2 RF_IN, 3 GND, 4 GND, 5 GND, 6 +1.2V, 7 GND, 8 +3.3V, 9 GND, 10 1.8V, 11 GND, 12 BREST, 13 HOST_BUS0, 14 HOST_BUS1, 15 GND, 16 HOST_BUS2, 17 HOST_BUS3, 18 HOST_BUS4, 19 HOST_BUS5, 20 HOST_BUS6, 21 HOST_BUS7, 22 HOST_BUS8, 23 HOST_BUS9, 24 HOST_BUS10, 25 HOST_BUS11, 26 HOST_BUS12, 27 HOST_BUS13, 28 HOST_BUS14, 29 GND, 30 GND
1 alternate drawing of the same symbol

## PCF8563_1
designator U?
footprint SOP-8
pins: 1 GND, 2 RF_IN, 3 GND, 4 GND, 5 GND, 6 +1.2V, 7 GND, 8 +3.3V, 9 GND, 10 1.8V, 11 ADD, 12 BREST, 13 HOST_BUS0, 14 HOST_BUS1, 15 GND, 16 HOST_BUS2, 17 HOST_BUS3, 18 HOST_BUS4, 19 HOST_BUS5, 20 HOST_BUS6, 21 HOST_BUS7, 22 HOST_BUS8, 23 HOST_BUS9, 24 HOST_BUS10, 25 HOST_BUS11, 26 HOST_BUS12, 27 HOST_BUS13, 28 HOST_BUS14, 29 GND, 30 GND
1 alternate drawing of the same symbol

## PHONEJACK STEREO SW_0
designator J?
pins: 1 HP, 2 COM, 3 L, 4 R

## PHONEJACK STEREO SW_1
designator J?
footprint PHONE-ST-0166MT-050
pins: 1 R, 2 COM, 3 HP, 4 L, 5

## PHONEJACK STEREO SW_2
designator J?
pins: 1 E, 2, 3 A, 4 D, 5 B, 6 C
text: L; R

## PHONEJACK STEREO SW_3
designator J?
pins: 1, 2 E, 3 A, 4 D, 5 B, 6 C
text: L; R

## PHONEJACK STEREO SW_4
designator J?
pins: 2, 3, 4, 5, 6, 7
text: L; R

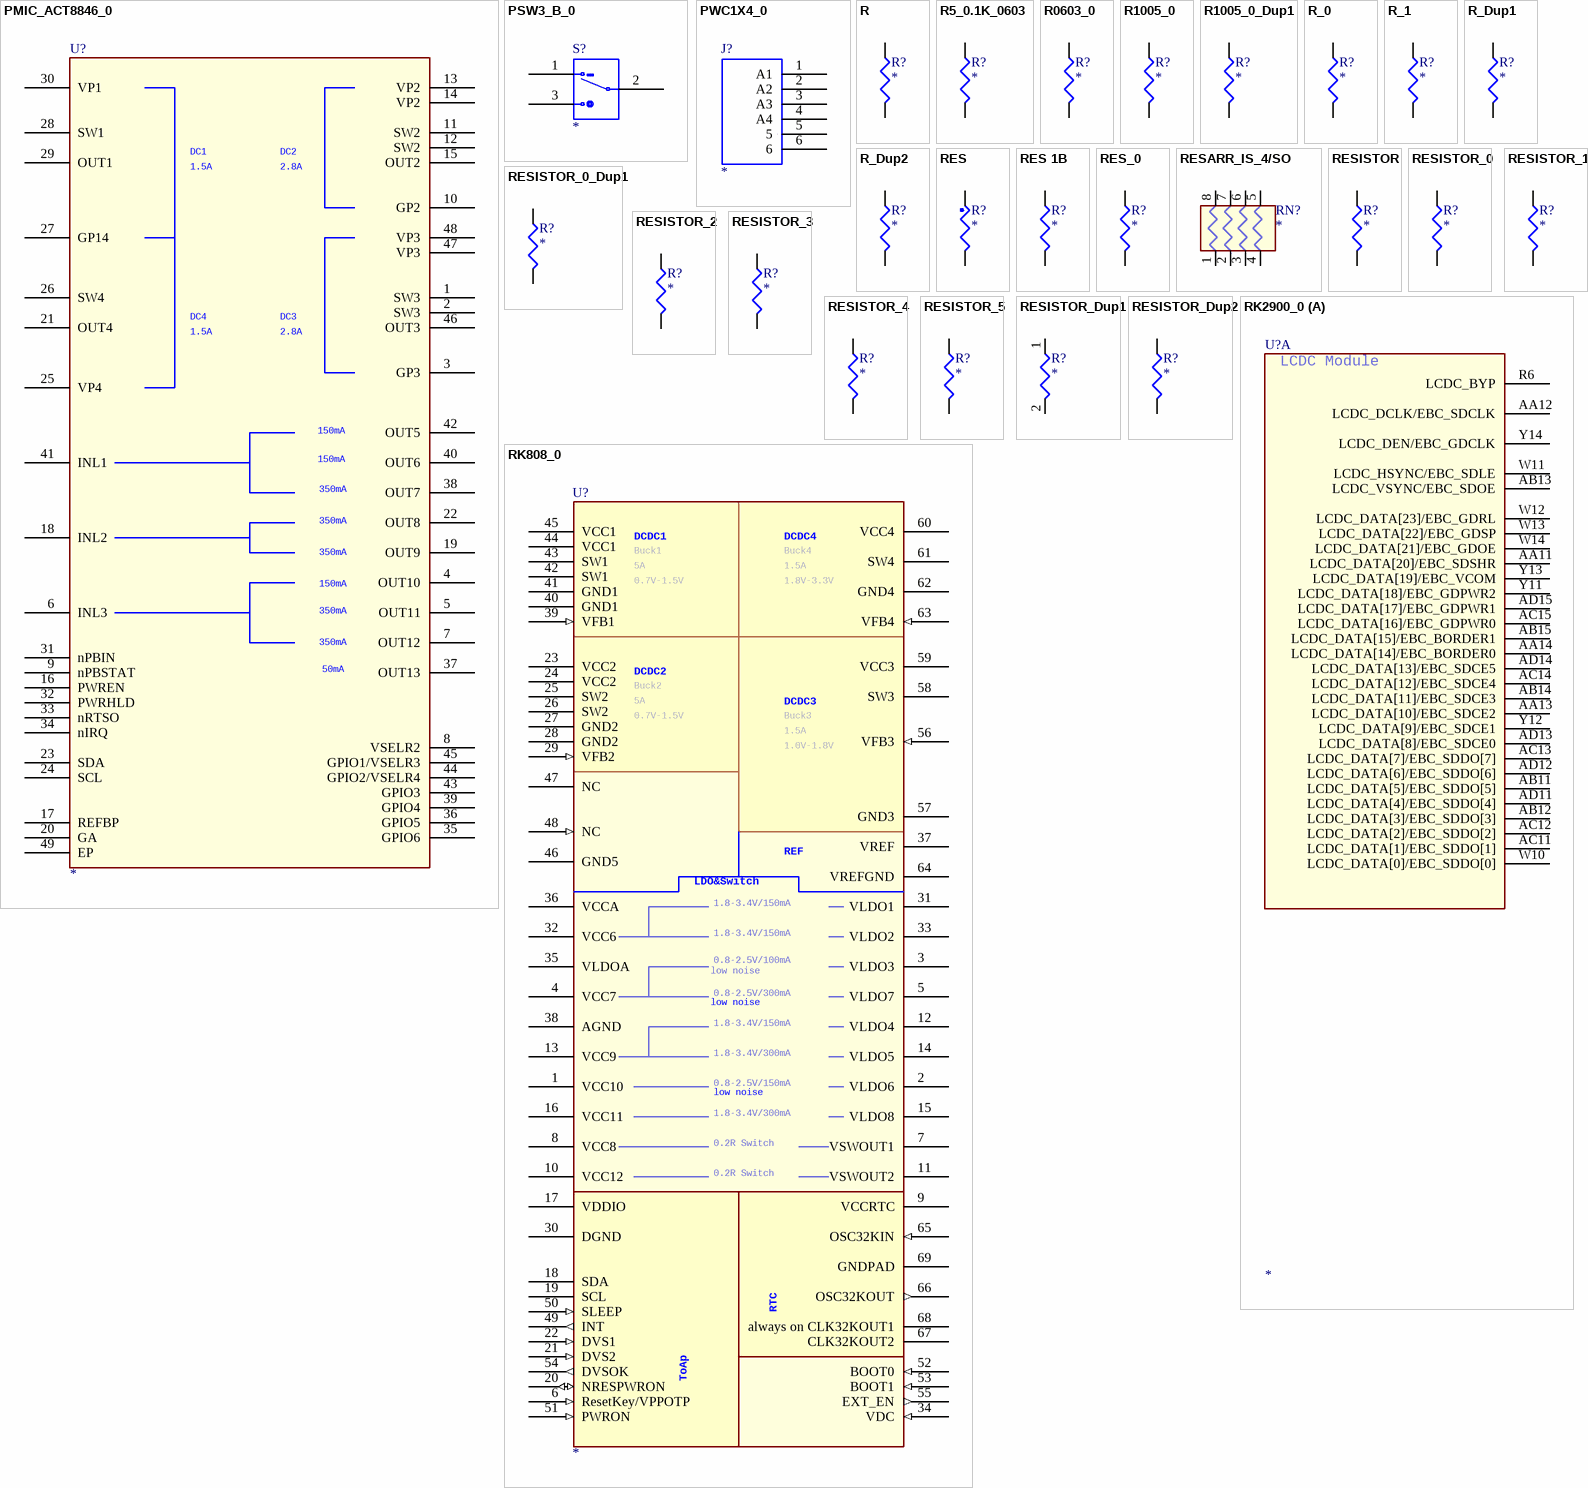
[diagram p26: symbols PMIC_ACT8846_0 to RK2900_0]

## PMIC_ACT8846_0
designator U?
footprint QFN48-6X6
pins: 1 SW3 (power), 2 SW3 (power), 3 GP3, 4 OUT10, 5 OUT11, 6 INL3, 7 OUT12, 8 VSELR2, 9 nPBSTAT, 10 GP2, 11 SW2 (power), 12 SW2 (power), 13 VP2 (power), 14 VP2 (power), 15 OUT2, 16 PWREN, 17 REFBP, 18 INL2, 19 OUT9, 20 GA, 21 OUT4, 22 OUT8, 23 SDA, 24 SCL, 25 VP4, 26 SW4, 27 GP14, 28 SW1, 29 OUT1, 30 VP1, 31 nPBIN, 32 PWRHLD, 33 nRTSO, 34 nIRQ, 35 GPIO6, 36 GPIO5, 37 OUT13, 38 OUT7, 39 GPIO4, 40 OUT6, 41 INL1, 42 OUT5, 43 GPIO3, 44 GPIO2/VSELR4, 45 GPIO1/VSELR3, 46 OUT3, 47 VP3 (power), 48 VP3 (power), 49 EP
text: DC1; DC2; 1.5A; 2.8A; DC4; DC3; 150mA; 350mA; 50mA

## PSW3_B_0
designator S?
PARTS: 1; DEVICE: BR-11C-11P6; LEVEL: STD; OriginalSymbolOrigin: (20,50)
pins: 1 P1, 2 P2, 3 P3

## PWC1X4_0
designator J?
PARTS: 1; DEVICE: HEAD1X4; LEVEL: STD; PKG_TYPE: 4; OriginalSymbolOrigin: (0,70)
pins: 1 A1, 2 A2, 3 A3, 4 A4, 5, 6

## R
designator R?
pins: 1, 2

## R5_0.1K_0603
designator R?
footprint 0603R
pins: 1, 2

## R0603_0
designator R?
footprint R0603
pins: 1, 2

## R1005_0
designator R?
footprint R1005
pins: 1, 2

## R1005_0_Dup1
designator R?
footprint R1005
pins: 1, 2

## R_0
designator R?
footprint R0402
pins: 1, 2

## R_1
designator R?
pins: 1, 2

## R_Dup1
designator R?
pins: 1, 2

## R_Dup2
designator R?
pins: 1, 2

## RES
designator R?
CLASS: DISCRETE
pins: 1, 2

## RES 1B
designator R?
pins: 1, 2

## RES_0
designator R?
footprint R0603
pins: 1, 2

## RESARR_IS_4/SO
designator RN?
pins: 1, 2, 3, 4, 5, 6, 7, 8

## RESISTOR
designator R?
pins: 1, 2

## RESISTOR_0
designator R?
pins: 1, 2

## RESISTOR_0_Dup1
designator R?
pins: 1, 2

## RESISTOR_1
designator R?
pins: 1, 2

## RESISTOR_2
designator R?
footprint R0402
pins: 1, 2

## RESISTOR_3
designator R?
footprint R0402
pins: 1, 2

## RESISTOR_4
designator R?
footprint R0402
pins: 1, 2

## RESISTOR_5
designator R?
footprint R0402
pins: 1, 2

## RESISTOR_Dup1
designator R?
footprint R0402
pins: 1, 2

## RESISTOR_Dup2
designator R?
footprint R0402
pins: 1, 2

## RK808_0
designator U?
pins: 1 VCC10 (power), 2 VLDO6 (power), 3 VLDO3 (power), 4 VCC7 (power), 5 VLDO7 (power), 6 ResetKey/VPPOTP (in), 7 VSWOUT1 (power), 8 VCC8 (power), 9 VCCRTC (power), 10 VCC12 (power), 11 VSWOUT2 (power), 12 VLDO4 (power), 13 VCC9 (power), 14 VLDO5 (power), 15 VLDO8 (power), 16 VCC11 (power), 17 VDDIO (power), 18 SDA (oc), 19 SCL (oc), 20 NRESPWRON (io), 21 DVS2 (in), 22 DVS1 (in), 23 VCC2 (power), 24 VCC2 (power), 25 SW2 (power), 26 SW2 (power), 27 GND2 (power), 28 GND2 (power), 29 VFB2 (in), 30 DGND (power), 31 VLDO1 (power), 32 VCC6 (power), 33 VLDO2 (power), 34 VDC (in), 35 VLDOA (power), 36 VCCA (power), 37 VREF (power), 38 AGND (power), 39 VFB1 (in), 40 GND1 (power), 41 GND1 (power), 42 SW1 (power), 43 SW1 (power), 44 VCC1 (power), 45 VCC1 (power), 46 GND5 (power), 47 NC (hiz), 48 NC (in), 49 INT (out), 50 SLEEP (in), 51 PWRON (in), 52 BOOT0 (in), 53 BOOT1 (in), 54 DVSOK (out), 55 EXT_EN (out), 56 VFB3 (in), 57 GND3 (power), 58 SW3 (power), 59 VCC3 (power), 60 VCC4 (power), 61 SW4 (power), 62 GND4 (power), 63 VFB4 (in), 64 VREFGND (power), 65 OSC32KIN (in), 66 OSC32KOUT (out), 67 CLK32KOUT2 (oc), 68 always on CLK32KOUT1 (oc), 69 GNDPAD (power)
text: DCDC1; DCDC4; Buck1; Buck4; 5A; 1.5A; 0.7V-1.5V; 1.8V-3.3V; DCDC2; Buck2; DCDC3; Buck3; 1.0V-1.8V; REF; LDO&Switch; 1.8-3.4V/150mA; 0.8-2.5V/100mA; low noise; 0.8-2.5V/300mA; 1.8-3.4V/300mA; 0.8-2.5V/150mA; 0.2R Switch; RTC; ToAp

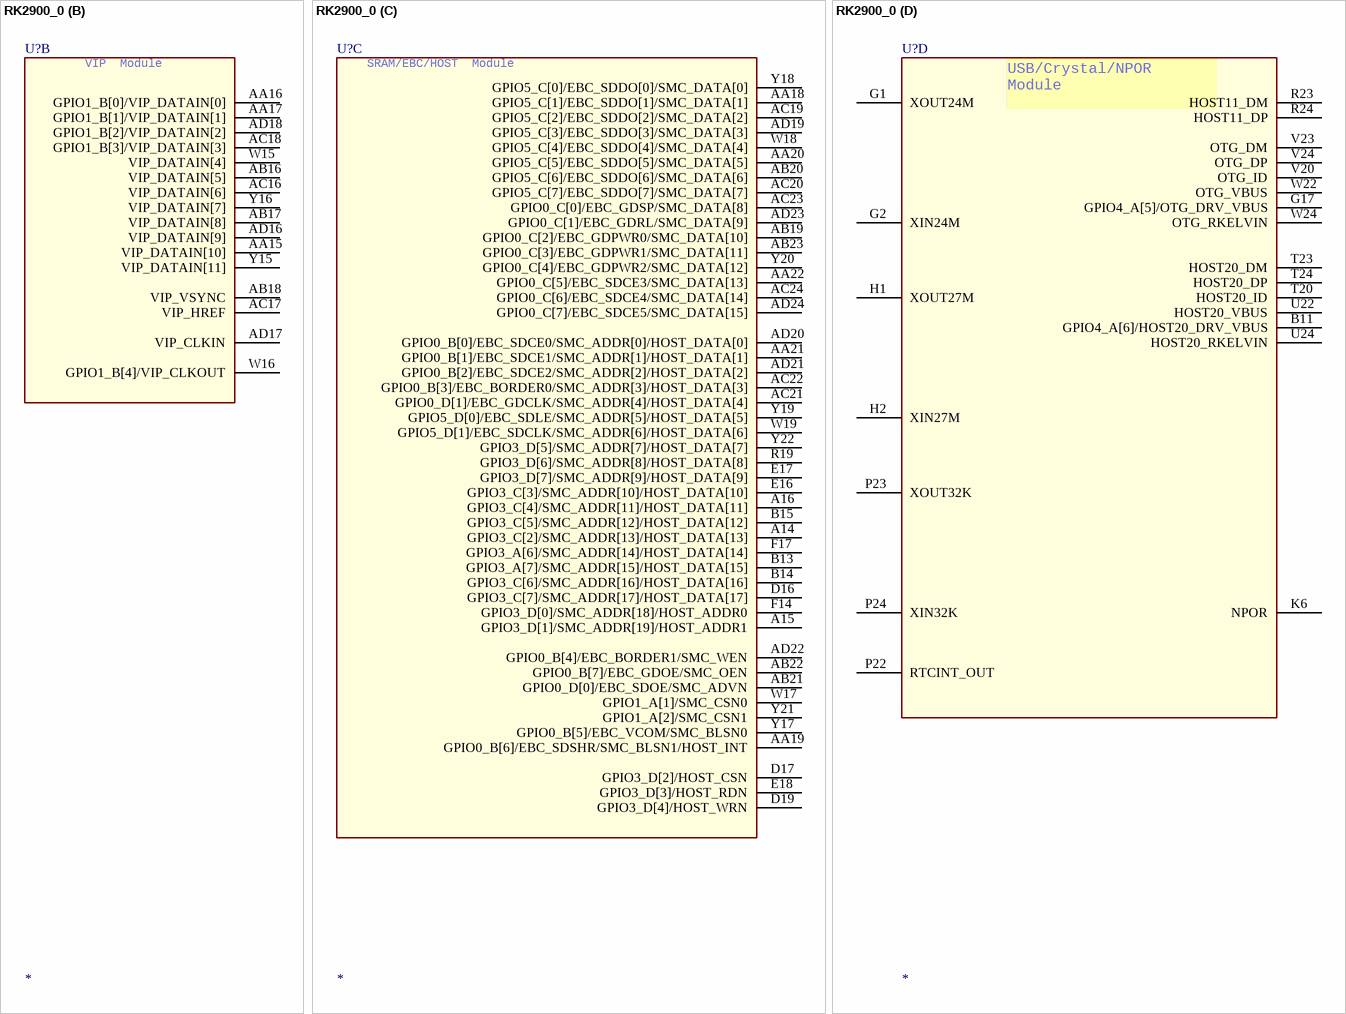
[diagram p27: symbol RK2900_0]

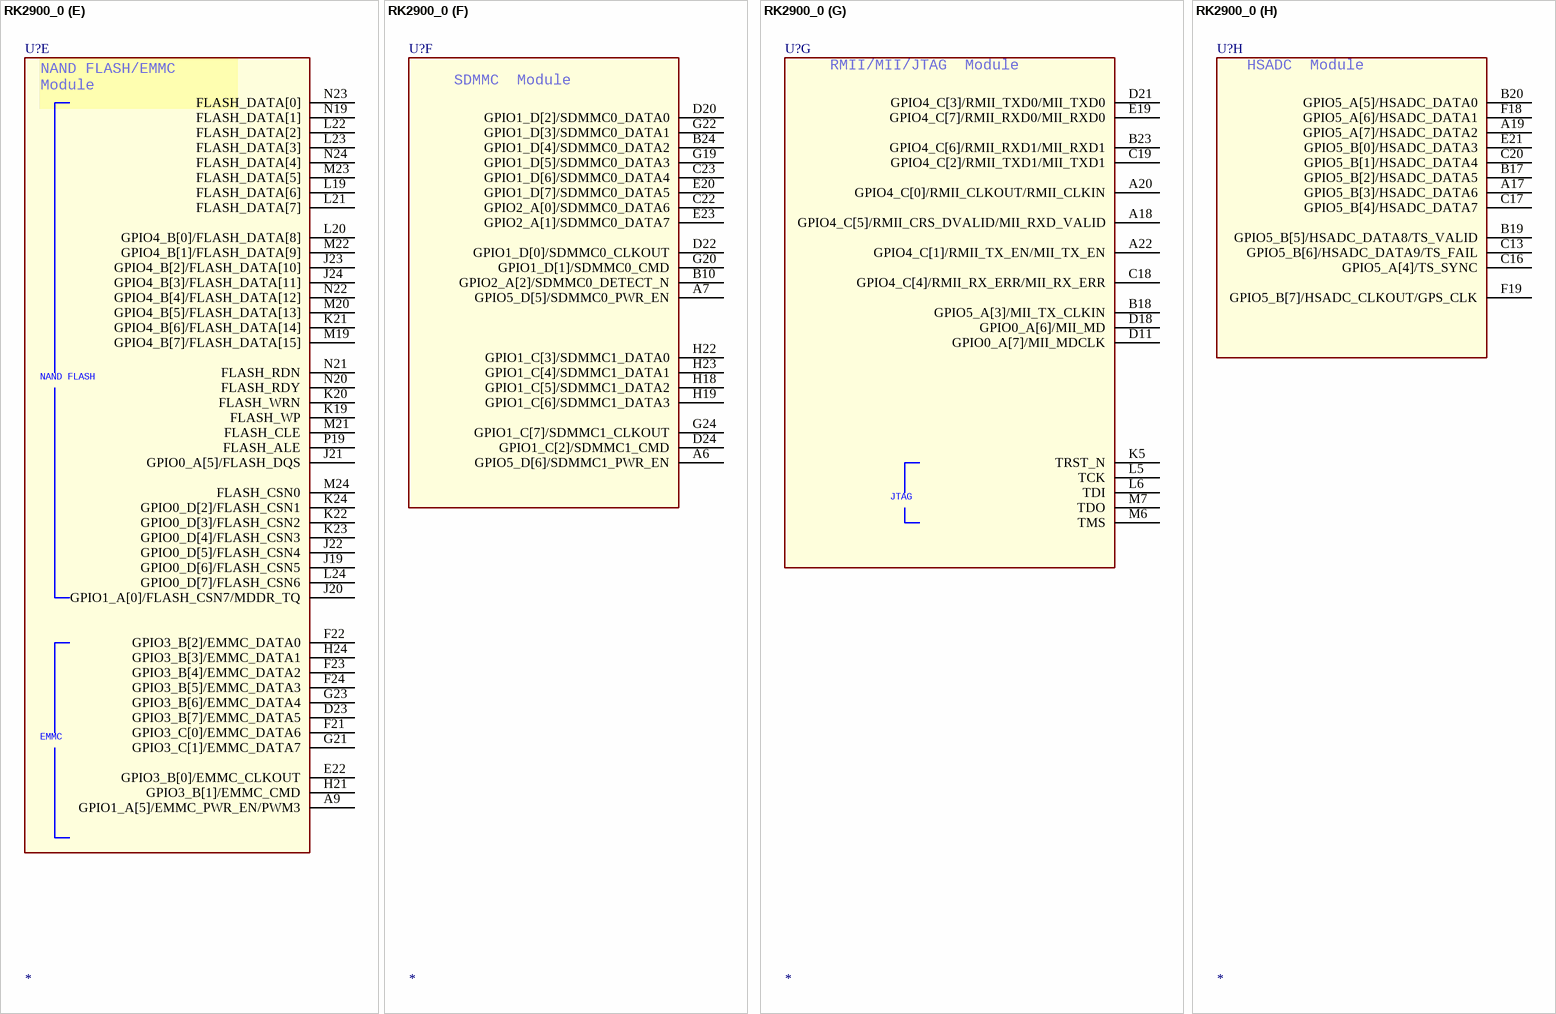
[diagram p28: symbol RK2900_0]

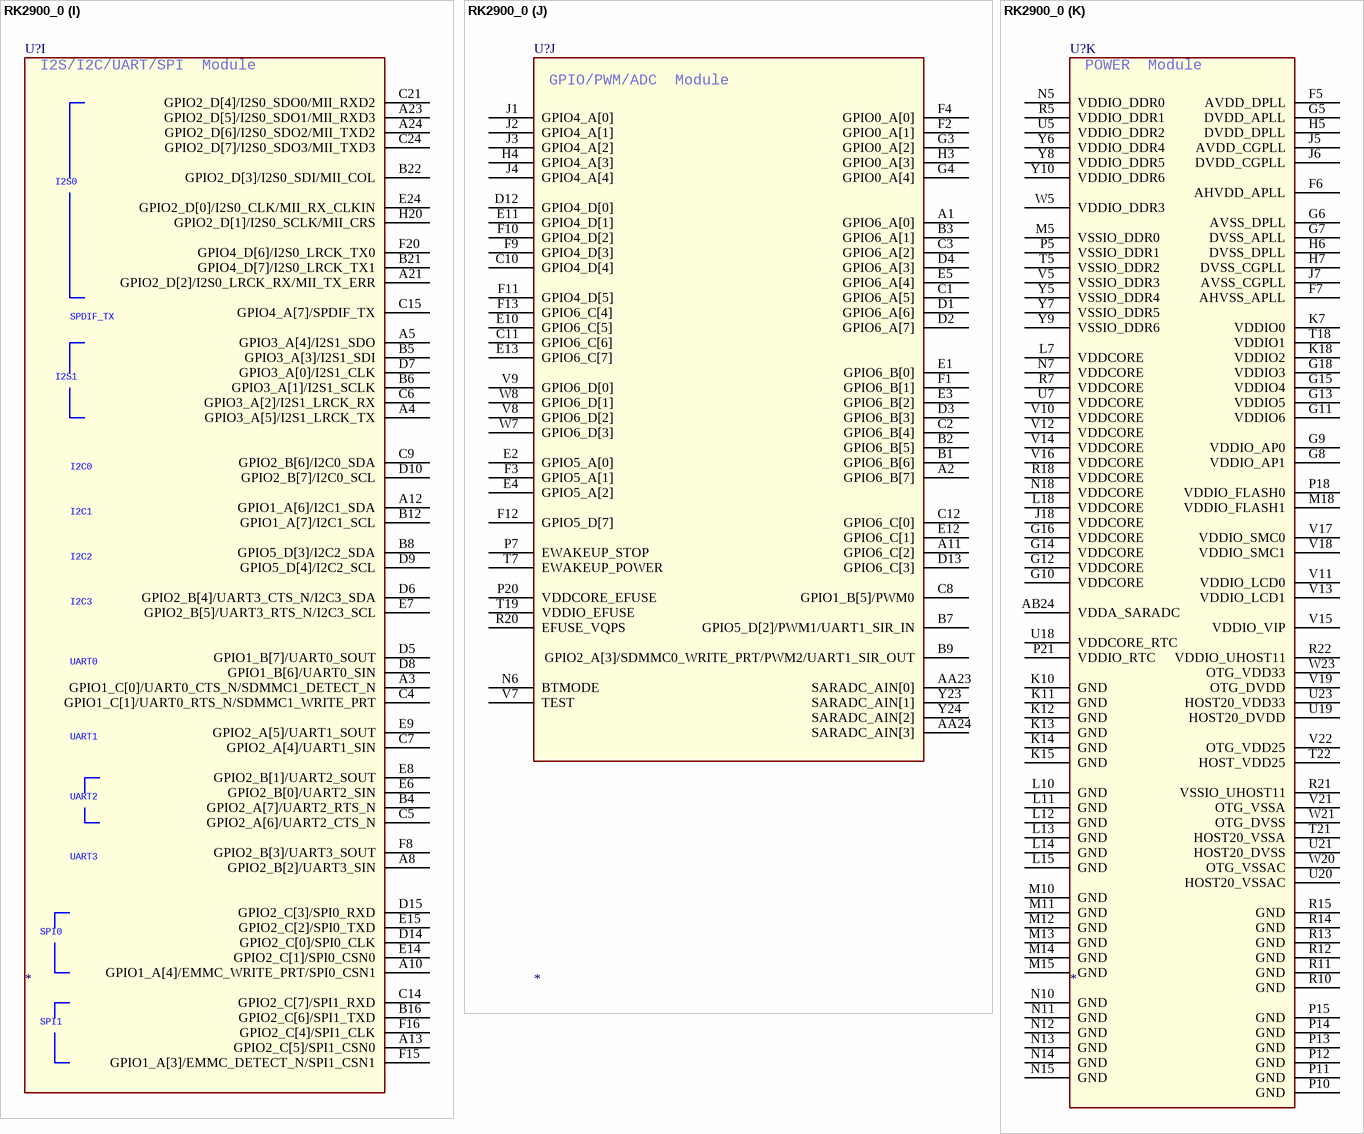
[diagram p29: symbol RK2900_0]

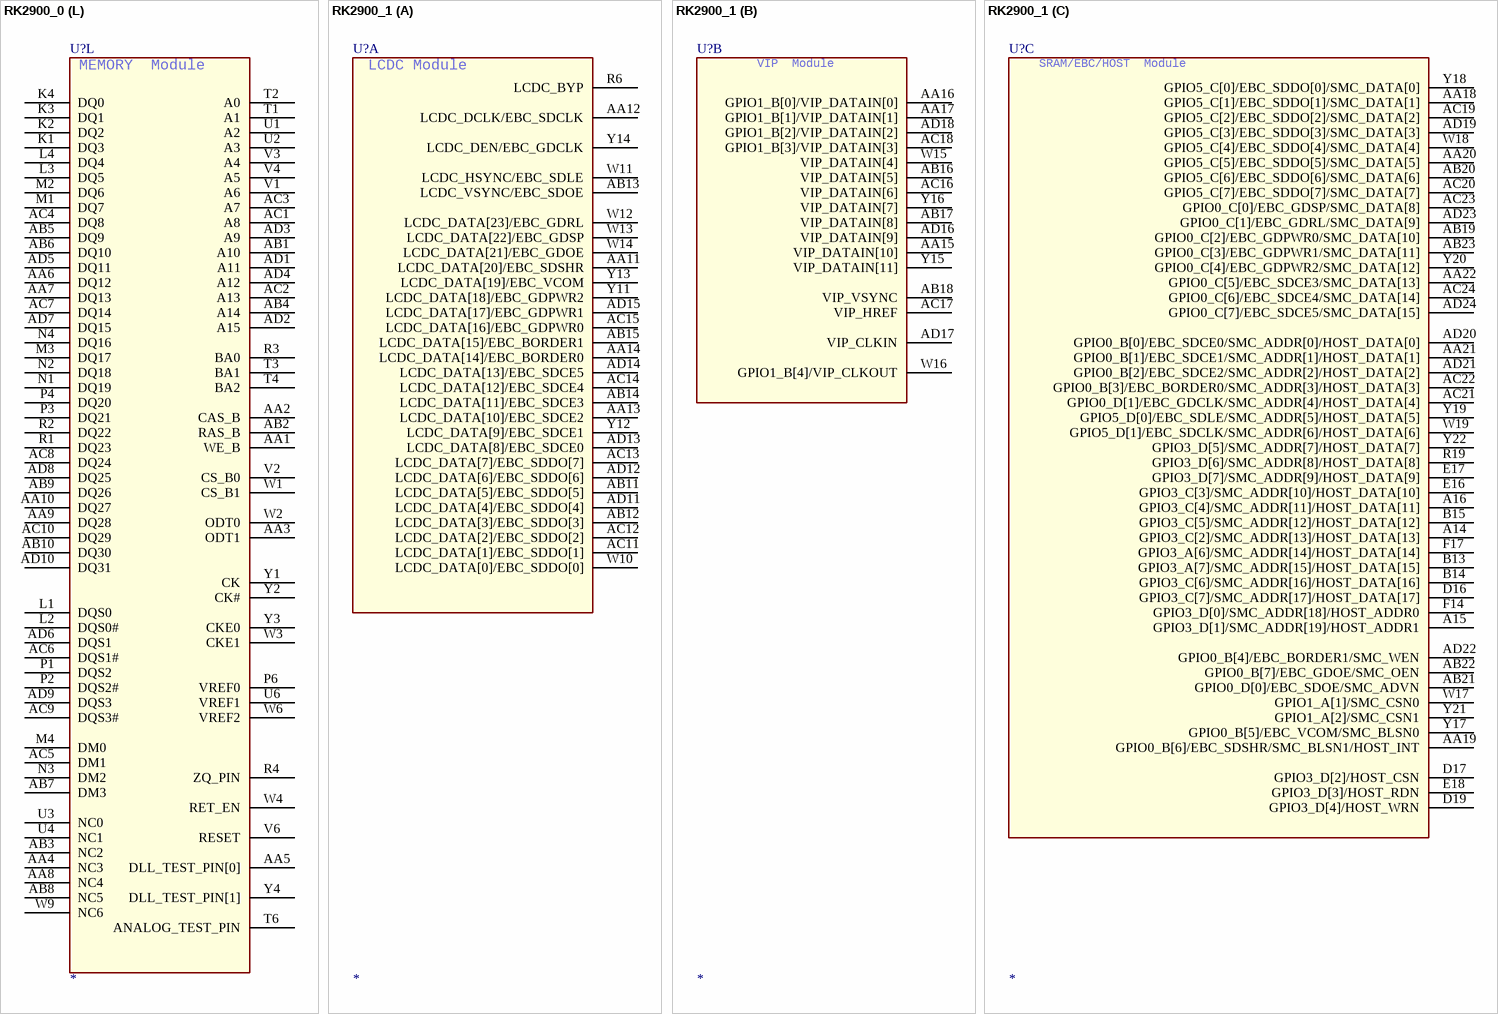
[diagram p30: symbols RK2900_0 to RK2900_1]

## RK2900_0
designator U?
footprint BGA512
part A pins: AA11 LCDC_DATA[20]/EBC_SDSHR, AA12 LCDC_DCLK/EBC_SDCLK, AA13 LCDC_DATA[10]/EBC_SDCE2, AA14 LCDC_DATA[14]/EBC_BORDER0, AB11 LCDC_DATA[5]/EBC_SDDO[5], AB12 LCDC_DATA[3]/EBC_SDDO[3], AB13 LCDC_VSYNC/EBC_SDOE, AB14 LCDC_DATA[11]/EBC_SDCE3, AB15 LCDC_DATA[15]/EBC_BORDER1, AC11 LCDC_DATA[1]/EBC_SDDO[1], AC12 LCDC_DATA[2]/EBC_SDDO[2], AC13 LCDC_DATA[7]/EBC_SDDO[7], AC14 LCDC_DATA[12]/EBC_SDCE4, AC15 LCDC_DATA[16]/EBC_GDPWR0, AD11 LCDC_DATA[4]/EBC_SDDO[4], AD12 LCDC_DATA[6]/EBC_SDDO[6], AD13 LCDC_DATA[8]/EBC_SDCE0, AD14 LCDC_DATA[13]/EBC_SDCE5, AD15 LCDC_DATA[17]/EBC_GDPWR1, R6 LCDC_BYP, W10 LCDC_DATA[0]/EBC_SDDO[0], W11 LCDC_HSYNC/EBC_SDLE, W12 LCDC_DATA[23]/EBC_GDRL, W13 LCDC_DATA[22]/EBC_GDSP, W14 LCDC_DATA[21]/EBC_GDOE, Y11 LCDC_DATA[18]/EBC_GDPWR2, Y12 LCDC_DATA[9]/EBC_SDCE1, Y13 LCDC_DATA[19]/EBC_VCOM, Y14 LCDC_DEN/EBC_GDCLK
part B pins: AA15 VIP_DATAIN[10], AA16 GPIO1_B[0]/VIP_DATAIN[0], AA17 GPIO1_B[1]/VIP_DATAIN[1], AB16 VIP_DATAIN[5], AB17 VIP_DATAIN[8], AB18 VIP_VSYNC, AC16 VIP_DATAIN[6], AC17 VIP_HREF, AC18 GPIO1_B[3]/VIP_DATAIN[3], AD16 VIP_DATAIN[9], AD17 VIP_CLKIN, AD18 GPIO1_B[2]/VIP_DATAIN[2], W15 VIP_DATAIN[4], W16 GPIO1_B[4]/VIP_CLKOUT, Y15 VIP_DATAIN[11], Y16 VIP_DATAIN[7]
part C pins: A14 GPIO3_C[2]/SMC_ADDR[13]/HOST_DATA[13], A15 GPIO3_D[1]/SMC_ADDR[19]/HOST_ADDR1, A16 GPIO3_C[4]/SMC_ADDR[11]/HOST_DATA[11], AA18 GPIO5_C[1]/EBC_SDDO[1]/SMC_DATA[1], AA19 GPIO0_B[6]/EBC_SDSHR/SMC_BLSN1/HOST_INT, AA20 GPIO5_C[5]/EBC_SDDO[5]/SMC_DATA[5], AA21 GPIO0_B[1]/EBC_SDCE1/SMC_ADDR[1]/HOST_DATA[1], AA22 GPIO0_C[5]/EBC_SDCE3/SMC_DATA[13], AB19 GPIO0_C[2]/EBC_GDPWR0/SMC_DATA[10], AB20 GPIO5_C[6]/EBC_SDDO[6]/SMC_DATA[6], AB21 GPIO0_D[0]/EBC_SDOE/SMC_ADVN, AB22 GPIO0_B[7]/EBC_GDOE/SMC_OEN, AB23 GPIO0_C[3]/EBC_GDPWR1/SMC_DATA[11], AC19 GPIO5_C[2]/EBC_SDDO[2]/SMC_DATA[2], AC20 GPIO5_C[7]/EBC_SDDO[7]/SMC_DATA[7], AC21 GPIO0_D[1]/EBC_GDCLK/SMC_ADDR[4]/HOST_DATA[4], AC22 GPIO0_B[3]/EBC_BORDER0/SMC_ADDR[3]/HOST_DATA[3], AC23 GPIO0_C[0]/EBC_GDSP/SMC_DATA[8], AC24 GPIO0_C[6]/EBC_SDCE4/SMC_DATA[14], AD19 GPIO5_C[3]/EBC_SDDO[3]/SMC_DATA[3], AD20 GPIO0_B[0]/EBC_SDCE0/SMC_ADDR[0]/HOST_DATA[0], AD21 GPIO0_B[2]/EBC_SDCE2/SMC_ADDR[2]/HOST_DATA[2], AD22 GPIO0_B[4]/EBC_BORDER1/SMC_WEN, AD23 GPIO0_C[1]/EBC_GDRL/SMC_DATA[9], AD24 GPIO0_C[7]/EBC_SDCE5/SMC_DATA[15], B13 GPIO3_A[7]/SMC_ADDR[15]/HOST_DATA[15], B14 GPIO3_C[6]/SMC_ADDR[16]/HOST_DATA[16], B15 GPIO3_C[5]/SMC_ADDR[12]/HOST_DATA[12], D16 GPIO3_C[7]/SMC_ADDR[17]/HOST_DATA[17], D17 GPIO3_D[2]/HOST_CSN, D19 GPIO3_D[4]/HOST_WRN, E16 GPIO3_C[3]/SMC_ADDR[10]/HOST_DATA[10], E17 GPIO3_D[7]/SMC_ADDR[9]/HOST_DATA[9], E18 GPIO3_D[3]/HOST_RDN, F14 GPIO3_D[0]/SMC_ADDR[18]/HOST_ADDR0, F17 GPIO3_A[6]/SMC_ADDR[14]/HOST_DATA[14], R19 GPIO3_D[6]/SMC_ADDR[8]/HOST_DATA[8], W17 GPIO1_A[1]/SMC_CSN0, W18 GPIO5_C[4]/EBC_SDDO[4]/SMC_DATA[4], W19 GPIO5_D[1]/EBC_SDCLK/SMC_ADDR[6]/HOST_DATA[6], Y17 GPIO0_B[5]/EBC_VCOM/SMC_BLSN0, Y18 GPIO5_C[0]/EBC_SDDO[0]/SMC_DATA[0], Y19 GPIO5_D[0]/EBC_SDLE/SMC_ADDR[5]/HOST_DATA[5], Y20 GPIO0_C[4]/EBC_GDPWR2/SMC_DATA[12], Y21 GPIO1_A[2]/SMC_CSN1, Y22 GPIO3_D[5]/SMC_ADDR[7]/HOST_DATA[7]
part D pins: B11 GPIO4_A[6]/HOST20_DRV_VBUS, G1 XOUT24M, G2 XIN24M, G17 GPIO4_A[5]/OTG_DRV_VBUS, H1 XOUT27M, H2 XIN27M, K6 NPOR, P22 RTCINT_OUT, P23 XOUT32K, P24 XIN32K, R23 HOST11_DM, R24 HOST11_DP, T20 HOST20_ID, T23 HOST20_DM, T24 HOST20_DP, U22 HOST20_VBUS, U24 HOST20_RKELVIN, V20 OTG_ID, V23 OTG_DM, V24 OTG_DP, W22 OTG_VBUS, W24 OTG_RKELVIN
part E pins: A9 GPIO1_A[5]/EMMC_PWR_EN/PWM3, D23 GPIO3_B[7]/EMMC_DATA5, E22 GPIO3_B[0]/EMMC_CLKOUT, F21 GPIO3_C[0]/EMMC_DATA6, F22 GPIO3_B[2]/EMMC_DATA0, F23 GPIO3_B[4]/EMMC_DATA2, F24 GPIO3_B[5]/EMMC_DATA3, G21 GPIO3_C[1]/EMMC_DATA7, G23 GPIO3_B[6]/EMMC_DATA4, H21 GPIO3_B[1]/EMMC_CMD, H24 GPIO3_B[3]/EMMC_DATA1, J19 GPIO0_D[6]/FLASH_CSN5, J20 GPIO1_A[0]/FLASH_CSN7/MDDR_TQ, J21 GPIO0_A[5]/FLASH_DQS, J22 GPIO0_D[5]/FLASH_CSN4, J23 GPIO4_B[2]/FLASH_DATA[10], J24 GPIO4_B[3]/FLASH_DATA[11], K19 FLASH_WP, K20 FLASH_WRN, K21 GPIO4_B[6]/FLASH_DATA[14], K22 GPIO0_D[3]/FLASH_CSN2, K23 GPIO0_D[4]/FLASH_CSN3, K24 GPIO0_D[2]/FLASH_CSN1, L19 FLASH_DATA[6], L20 GPIO4_B[0]/FLASH_DATA[8], L21 FLASH_DATA[7], L22 FLASH_DATA[2], L23 FLASH_DATA[3], L24 GPIO0_D[7]/FLASH_CSN6, M19 GPIO4_B[7]/FLASH_DATA[15], M20 GPIO4_B[5]/FLASH_DATA[13], M21 FLASH_CLE, M22 GPIO4_B[1]/FLASH_DATA[9], M23 FLASH_DATA[5], M24 FLASH_CSN0, N19 FLASH_DATA[1], N20 FLASH_RDY, N21 FLASH_RDN, N22 GPIO4_B[4]/FLASH_DATA[12], N23 FLASH_DATA[0], N24 FLASH_DATA[4], P19 FLASH_ALE
part F pins: A6 GPIO5_D[6]/SDMMC1_PWR_EN, A7 GPIO5_D[5]/SDMMC0_PWR_EN, B10 GPIO2_A[2]/SDMMC0_DETECT_N, B24 GPIO1_D[4]/SDMMC0_DATA2, C22 GPIO2_A[0]/SDMMC0_DATA6, C23 GPIO1_D[6]/SDMMC0_DATA4, D20 GPIO1_D[2]/SDMMC0_DATA0, D22 GPIO1_D[0]/SDMMC0_CLKOUT, D24 GPIO1_C[2]/SDMMC1_CMD, E20 GPIO1_D[7]/SDMMC0_DATA5, E23 GPIO2_A[1]/SDMMC0_DATA7, G19 GPIO1_D[5]/SDMMC0_DATA3, G20 GPIO1_D[1]/SDMMC0_CMD, G22 GPIO1_D[3]/SDMMC0_DATA1, G24 GPIO1_C[7]/SDMMC1_CLKOUT, H18 GPIO1_C[5]/SDMMC1_DATA2, H19 GPIO1_C[6]/SDMMC1_DATA3, H22 GPIO1_C[3]/SDMMC1_DATA0, H23 GPIO1_C[4]/SDMMC1_DATA1
part G pins: A18 GPIO4_C[5]/RMII_CRS_DVALID/MII_RXD_VALID, A20 GPIO4_C[0]/RMII_CLKOUT/RMII_CLKIN, A22 GPIO4_C[1]/RMII_TX_EN/MII_TX_EN, B18 GPIO5_A[3]/MII_TX_CLKIN, B23 GPIO4_C[6]/RMII_RXD1/MII_RXD1, C18 GPIO4_C[4]/RMII_RX_ERR/MII_RX_ERR, C19 GPIO4_C[2]/RMII_TXD1/MII_TXD1, D11 GPIO0_A[7]/MII_MDCLK, D18 GPIO0_A[6]/MII_MD, D21 GPIO4_C[3]/RMII_TXD0/MII_TXD0, E19 GPIO4_C[7]/RMII_RXD0/MII_RXD0, K5 TRST_N, L5 TCK, L6 TDI, M6 TMS, M7 TDO
part H pins: A17 GPIO5_B[3]/HSADC_DATA6, A19 GPIO5_A[7]/HSADC_DATA2, B17 GPIO5_B[2]/HSADC_DATA5, B19 GPIO5_B[5]/HSADC_DATA8/TS_VALID, B20 GPIO5_A[5]/HSADC_DATA0, C13 GPIO5_B[6]/HSADC_DATA9/TS_FAIL, C16 GPIO5_A[4]/TS_SYNC, C17 GPIO5_B[4]/HSADC_DATA7, C20 GPIO5_B[1]/HSADC_DATA4, E21 GPIO5_B[0]/HSADC_DATA3, F18 GPIO5_A[6]/HSADC_DATA1, F19 GPIO5_B[7]/HSADC_CLKOUT/GPS_CLK
part I pins: A3 GPIO1_C[0]/UART0_CTS_N/SDMMC1_DETECT_N, A4 GPIO3_A[5]/I2S1_LRCK_TX, A5 GPIO3_A[4]/I2S1_SDO, A8 GPIO2_B[2]/UART3_SIN, A10 GPIO1_A[4]/EMMC_WRITE_PRT/SPI0_CSN1, A12 GPIO1_A[6]/I2C1_SDA, A13 GPIO2_C[5]/SPI1_CSN0, A21 GPIO2_D[2]/I2S0_LRCK_RX/MII_TX_ERR, A23 GPIO2_D[5]/I2S0_SDO1/MII_RXD3, A24 GPIO2_D[6]/I2S0_SDO2/MII_TXD2, B4 GPIO2_A[7]/UART2_RTS_N, B5 GPIO3_A[3]/I2S1_SDI, B6 GPIO3_A[1]/I2S1_SCLK, B8 GPIO5_D[3]/I2C2_SDA, B12 GPIO1_A[7]/I2C1_SCL, B16 GPIO2_C[6]/SPI1_TXD, B21 GPIO4_D[7]/I2S0_LRCK_TX1, B22 GPIO2_D[3]/I2S0_SDI/MII_COL, C4 GPIO1_C[1]/UART0_RTS_N/SDMMC1_WRITE_PRT, C5 GPIO2_A[6]/UART2_CTS_N, C6 GPIO3_A[2]/I2S1_LRCK_RX, C7 GPIO2_A[4]/UART1_SIN, C9 GPIO2_B[6]/I2C0_SDA, C14 GPIO2_C[7]/SPI1_RXD, C15 GPIO4_A[7]/SPDIF_TX, C21 GPIO2_D[4]/I2S0_SDO0/MII_RXD2, C24 GPIO2_D[7]/I2S0_SDO3/MII_TXD3, D5 GPIO1_B[7]/UART0_SOUT, D6 GPIO2_B[4]/UART3_CTS_N/I2C3_SDA, D7 GPIO3_A[0]/I2S1_CLK, D8 GPIO1_B[6]/UART0_SIN, D9 GPIO5_D[4]/I2C2_SCL, D10 GPIO2_B[7]/I2C0_SCL, D14 GPIO2_C[0]/SPI0_CLK, D15 GPIO2_C[3]/SPI0_RXD, E6 GPIO2_B[0]/UART2_SIN, E7 GPIO2_B[5]/UART3_RTS_N/I2C3_SCL, E8 GPIO2_B[1]/UART2_SOUT, E9 GPIO2_A[5]/UART1_SOUT, E14 GPIO2_C[1]/SPI0_CSN0, E15 GPIO2_C[2]/SPI0_TXD, E24 GPIO2_D[0]/I2S0_CLK/MII_RX_CLKIN, F8 GPIO2_B[3]/UART3_SOUT, F15 GPIO1_A[3]/EMMC_DETECT_N/SPI1_CSN1, F16 GPIO2_C[4]/SPI1_CLK, F20 GPIO4_D[6]/I2S0_LRCK_TX0, H20 GPIO2_D[1]/I2S0_SCLK/MII_CRS
part J pins: A1 GPIO6_A[0], A2 GPIO6_B[7], A11 GPIO6_C[2], AA23 SARADC_AIN[0], AA24 SARADC_AIN[3], B1 GPIO6_B[6], B2 GPIO6_B[5], B3 GPIO6_A[1], B7 GPIO5_D[2]/PWM1/UART1_SIR_IN, B9 GPIO2_A[3]/SDMMC0_WRITE_PRT/PWM2/UART1_SIR_OUT, C1 GPIO6_A[5], C2 GPIO6_B[4], C3 GPIO6_A[2], C8 GPIO1_B[5]/PWM0, C10 GPIO4_D[4], C11 GPIO6_C[6], C12 GPIO6_C[0], D1 GPIO6_A[6], D2 GPIO6_A[7], D3 GPIO6_B[3], D4 GPIO6_A[3], D12 GPIO4_D[0], D13 GPIO6_C[3], E1 GPIO6_B[0], E2 GPIO5_A[0], E3 GPIO6_B[2], E4 GPIO5_A[2], E5 GPIO6_A[4], E10 GPIO6_C[5], E11 GPIO4_D[1], E12 GPIO6_C[1], E13 GPIO6_C[7], F1 GPIO6_B[1], F2 GPIO0_A[1], F3 GPIO5_A[1], F4 GPIO0_A[0], F9 GPIO4_D[3], F10 GPIO4_D[2], F11 GPIO4_D[5], F12 GPIO5_D[7], F13 GPIO6_C[4], G3 GPIO0_A[2], G4 GPIO0_A[4], H3 GPIO0_A[3], H4 GPIO4_A[3], J1 GPIO4_A[0], J2 GPIO4_A[1], J3 GPIO4_A[2], J4 GPIO4_A[4], N6 BTMODE, P7 EWAKEUP_STOP, P20 VDDCORE_EFUSE, R20 EFUSE_VQPS, T7 EWAKEUP_POWER, T19 VDDIO_EFUSE, V7 TEST, V8 GPIO6_D[2], V9 GPIO6_D[0], W7 GPIO6_D[3], W8 GPIO6_D[1], Y23 SARADC_AIN[1], Y24 SARADC_AIN[2]
part K pins: AB24 VDDA_SARADC, F5 AVDD_DPLL, F6 AHVDD_APLL, F7 AHVSS_APLL, G5 DVDD_APLL, G6 AVSS_DPLL, G7 DVSS_APLL, G8 VDDIO_AP1, G9 VDDIO_AP0, G10 VDDCORE, G11 VDDIO6, G12 VDDCORE, G13 VDDIO5, G14 VDDCORE, G15 VDDIO4, G16 VDDCORE, G18 VDDIO3, H5 DVDD_DPLL, H6 DVSS_DPLL, H7 DVSS_CGPLL, J5 AVDD_CGPLL, J6 DVDD_CGPLL, J7 AVSS_CGPLL, J18 VDDCORE, K7 VDDIO0, K10 GND, K11 GND, K12 GND, K13 GND, K14 GND, K15 GND, K18 VDDIO2, L7 VDDCORE, L10 GND, L11 GND, L12 GND, L13 GND, L14 GND, L15 GND, L18 VDDCORE, M5 VSSIO_DDR0, M10 GND, M11 GND, M12 GND, M13 GND, M14 GND, M15 GND, M18 VDDIO_FLASH1, N5 VDDIO_DDR0, N7 VDDCORE, N10 GND, N11 GND, N12 GND, N13 GND, N14 GND, N15 GND, N18 VDDCORE, P5 VSSIO_DDR1, P10 GND, P11 GND, P12 GND, P13 GND, P14 GND, P15 GND, P18 VDDIO_FLASH0, P21 VDDIO_RTC, R5 VDDIO_DDR1, R7 VDDCORE, R10 GND, R11 GND, R12 GND, R13 GND, R14 GND, R15 GND, R18 VDDCORE, R21 VSSIO_UHOST11, R22 VDDIO_UHOST11, T5 VSSIO_DDR2, T18 VDDIO1, T21 HOST20_VSSA, T22 HOST_VDD25, U5 VDDIO_DDR2, U7 VDDCORE, U18 VDDCORE_RTC, U19 HOST20_DVDD, U20 HOST20_VSSAC, U21 HOST20_DVSS, U23 HOST20_VDD33, V5 VSSIO_DDR3, V10 VDDCORE, V11 VDDIO_LCD0, V12 VDDCORE, V13 VDDIO_LCD1, V14 VDDCORE, V15 VDDIO_VIP, V16 VDDCORE, V17 VDDIO_SMC0, V18 VDDIO_SMC1, V19 OTG_DVDD, V21 OTG_VSSA, V22 OTG_VDD25, W5 VDDIO_DDR3, W20 OTG_VSSAC, W21 OTG_DVSS, W23 OTG_VDD33, Y5 VSSIO_DDR4, Y6 VDDIO_DDR4, Y7 VSSIO_DDR5, Y8 VDDIO_DDR5, Y9 VSSIO_DDR6, Y10 VDDIO_DDR6
part L pins: AA1 WE_B, AA2 CAS_B, AA3 ODT1, AA4 NC3, AA5 DLL_TEST_PIN[0], AA6 DQ12, AA7 DQ13, AA8 NC4, AA9 DQ28, AA10 DQ27, AB1 A10, AB2 RAS_B, AB3 NC2, AB4 A14, AB5 DQ9, AB6 DQ10, AB7 DM3, AB8 NC5, AB9 DQ26, AB10 DQ30, AC1 A8, AC2 A13, AC3 A7, AC4 DQ8, AC5 DM1, AC6 DQS1#, AC7 DQ14, AC8 DQ24, AC9 DQS3#, AC10 DQ29, AD1 A11, AD2 A15, AD3 A9, AD4 A12, AD5 DQ11, AD6 DQS1, AD7 DQ15, AD8 DQ25, AD9 DQS3, AD10 DQ31, K1 DQ3, K2 DQ2, K3 DQ1, K4 DQ0, L1 DQS0, L2 DQS0#, L3 DQ5, L4 DQ4, M1 DQ7, M2 DQ6, M3 DQ17, M4 DM0, N1 DQ19, N2 DQ18, N3 DM2, N4 DQ16, P1 DQS2, P2 DQS2#, P3 DQ21, P4 DQ20, P6 VREF0, R1 DQ23, R2 DQ22, R3 BA0, R4 ZQ_PIN, T1 A1, T2 A0, T3 BA1, T4 BA2, T6 ANALOG_TEST_PIN, U1 A2, U2 A3, U3 NC0, U4 NC1, U6 VREF1, V1 A6, V2 CS_B0, V3 A4, V4 A5, V6 RESET, W1 CS_B1, W2 ODT0, W3 CKE1, W4 RET_EN, W6 VREF2, W9 NC6, Y1 CK, Y2 CK#, Y3 CKE0, Y4 DLL_TEST_PIN[1]
part A text: LCDC Module
part B text: VIP  Module
part C text: SRAM/EBC/HOST  Module
part D text: USB/Crystal/NPOR / Module
part E text: NAND FLASH/EMMC / Module; NAND FLASH; EMMC
part F text: SDMMC  Module
part G text: RMII/MII/JTAG  Module; JTAG
part H text: HSADC  Module
part I text: I2S/I2C/UART/SPI  Module; I2S0; SPDIF_TX; I2S1; I2C0; I2C1; I2C2; I2C3; UART0; UART1; UART2; UART3; SPI0; SPI1
part J text: GPIO/PWM/ADC  Module
part K text: POWER  Module
part L text: MEMORY  Module

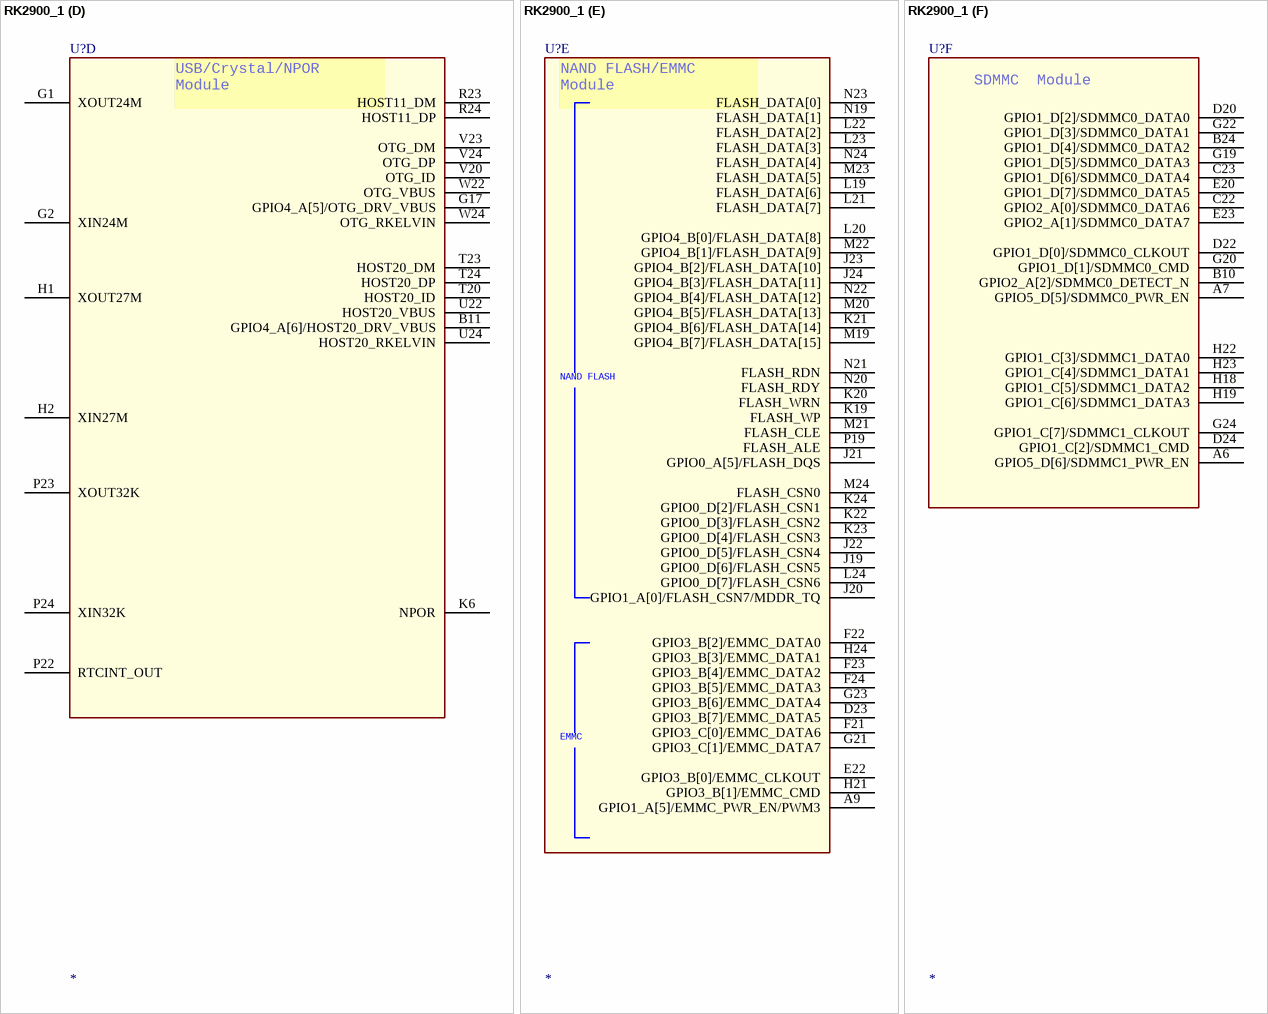
[diagram p31: symbol RK2900_1]

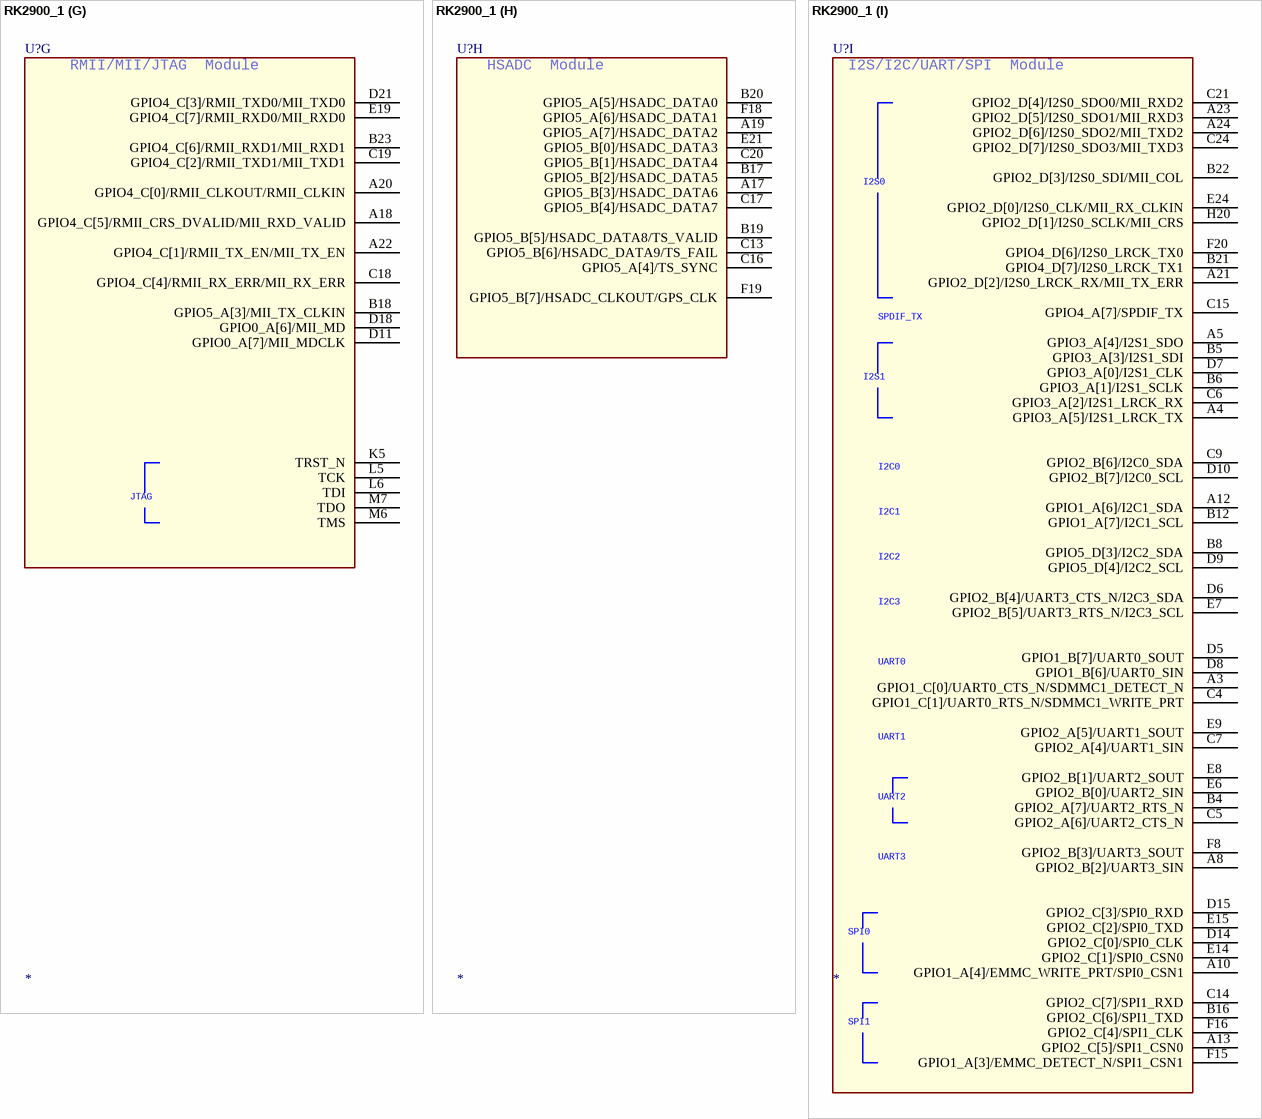
[diagram p32: symbol RK2900_1]

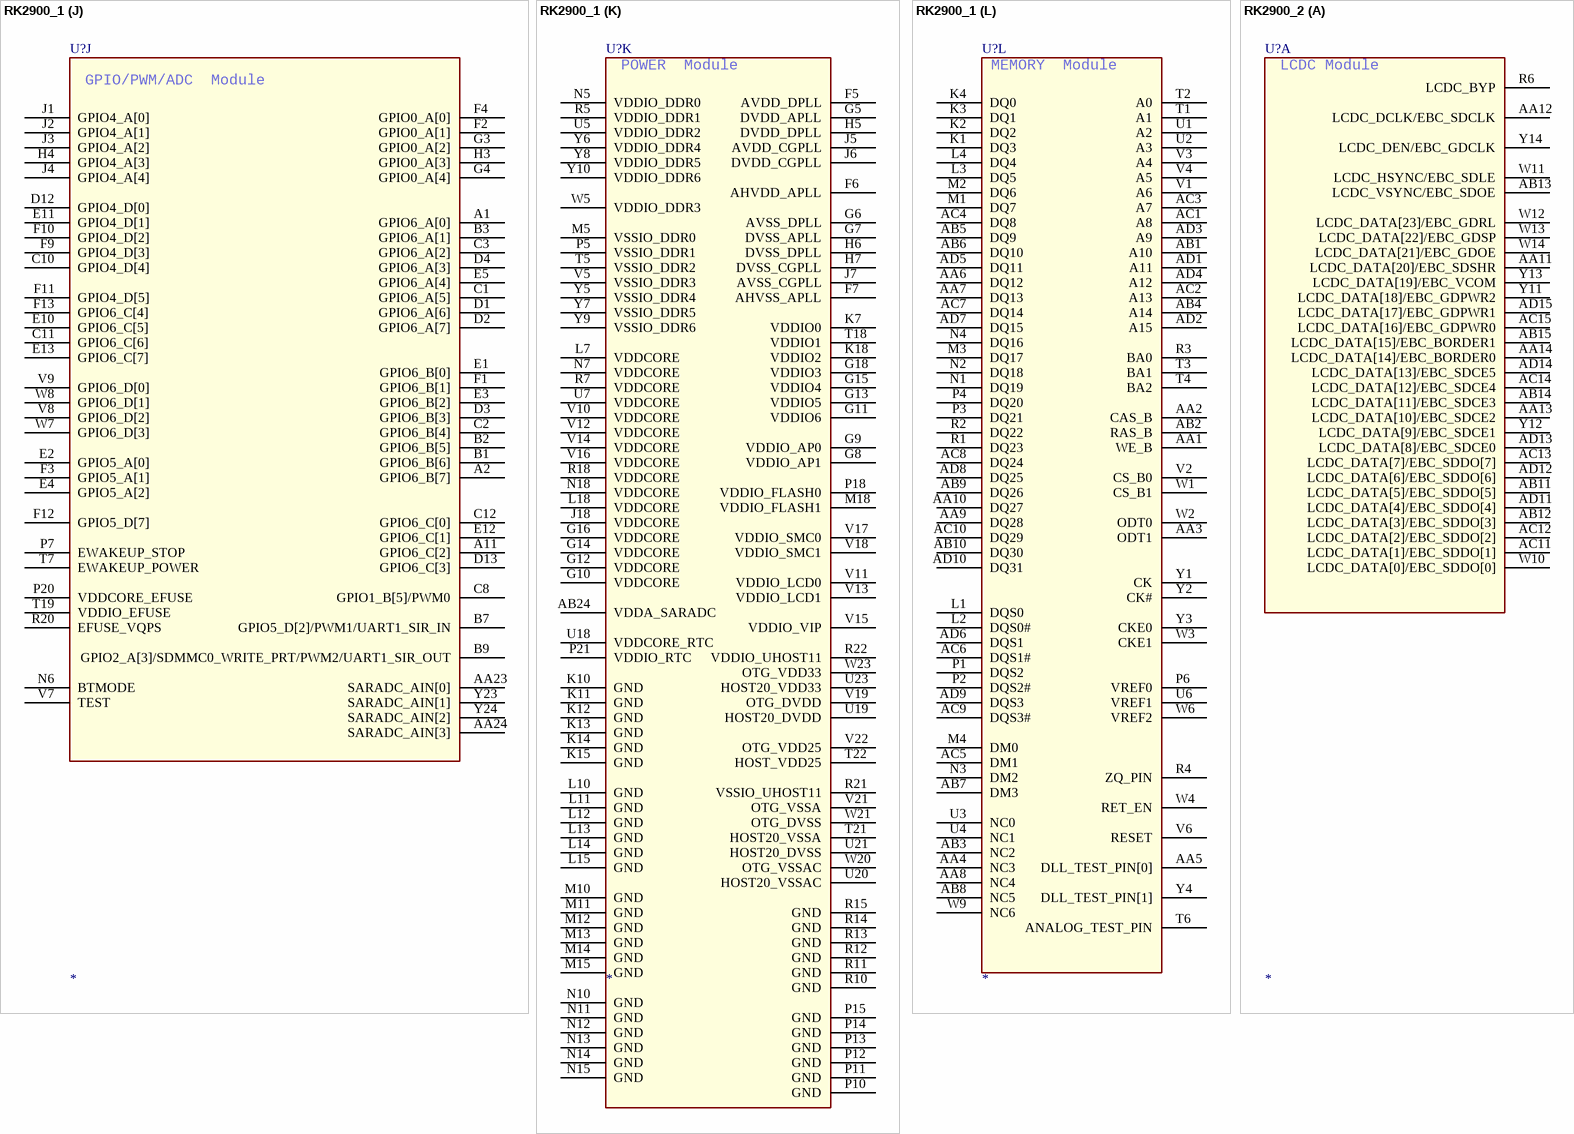
[diagram p33: symbols RK2900_1 to RK2900_2]

## RK2900_1
designator U?
footprint BGA512
part A pins: AA11 LCDC_DATA[20]/EBC_SDSHR, AA12 LCDC_DCLK/EBC_SDCLK, AA13 LCDC_DATA[10]/EBC_SDCE2, AA14 LCDC_DATA[14]/EBC_BORDER0, AB11 LCDC_DATA[5]/EBC_SDDO[5], AB12 LCDC_DATA[3]/EBC_SDDO[3], AB13 LCDC_VSYNC/EBC_SDOE, AB14 LCDC_DATA[11]/EBC_SDCE3, AB15 LCDC_DATA[15]/EBC_BORDER1, AC11 LCDC_DATA[1]/EBC_SDDO[1], AC12 LCDC_DATA[2]/EBC_SDDO[2], AC13 LCDC_DATA[7]/EBC_SDDO[7], AC14 LCDC_DATA[12]/EBC_SDCE4, AC15 LCDC_DATA[16]/EBC_GDPWR0, AD11 LCDC_DATA[4]/EBC_SDDO[4], AD12 LCDC_DATA[6]/EBC_SDDO[6], AD13 LCDC_DATA[8]/EBC_SDCE0, AD14 LCDC_DATA[13]/EBC_SDCE5, AD15 LCDC_DATA[17]/EBC_GDPWR1, R6 LCDC_BYP, W10 LCDC_DATA[0]/EBC_SDDO[0], W11 LCDC_HSYNC/EBC_SDLE, W12 LCDC_DATA[23]/EBC_GDRL, W13 LCDC_DATA[22]/EBC_GDSP, W14 LCDC_DATA[21]/EBC_GDOE, Y11 LCDC_DATA[18]/EBC_GDPWR2, Y12 LCDC_DATA[9]/EBC_SDCE1, Y13 LCDC_DATA[19]/EBC_VCOM, Y14 LCDC_DEN/EBC_GDCLK
part B pins: AA15 VIP_DATAIN[10], AA16 GPIO1_B[0]/VIP_DATAIN[0], AA17 GPIO1_B[1]/VIP_DATAIN[1], AB16 VIP_DATAIN[5], AB17 VIP_DATAIN[8], AB18 VIP_VSYNC, AC16 VIP_DATAIN[6], AC17 VIP_HREF, AC18 GPIO1_B[3]/VIP_DATAIN[3], AD16 VIP_DATAIN[9], AD17 VIP_CLKIN, AD18 GPIO1_B[2]/VIP_DATAIN[2], W15 VIP_DATAIN[4], W16 GPIO1_B[4]/VIP_CLKOUT, Y15 VIP_DATAIN[11], Y16 VIP_DATAIN[7]
part C pins: A14 GPIO3_C[2]/SMC_ADDR[13]/HOST_DATA[13], A15 GPIO3_D[1]/SMC_ADDR[19]/HOST_ADDR1, A16 GPIO3_C[4]/SMC_ADDR[11]/HOST_DATA[11], AA18 GPIO5_C[1]/EBC_SDDO[1]/SMC_DATA[1], AA19 GPIO0_B[6]/EBC_SDSHR/SMC_BLSN1/HOST_INT, AA20 GPIO5_C[5]/EBC_SDDO[5]/SMC_DATA[5], AA21 GPIO0_B[1]/EBC_SDCE1/SMC_ADDR[1]/HOST_DATA[1], AA22 GPIO0_C[5]/EBC_SDCE3/SMC_DATA[13], AB19 GPIO0_C[2]/EBC_GDPWR0/SMC_DATA[10], AB20 GPIO5_C[6]/EBC_SDDO[6]/SMC_DATA[6], AB21 GPIO0_D[0]/EBC_SDOE/SMC_ADVN, AB22 GPIO0_B[7]/EBC_GDOE/SMC_OEN, AB23 GPIO0_C[3]/EBC_GDPWR1/SMC_DATA[11], AC19 GPIO5_C[2]/EBC_SDDO[2]/SMC_DATA[2], AC20 GPIO5_C[7]/EBC_SDDO[7]/SMC_DATA[7], AC21 GPIO0_D[1]/EBC_GDCLK/SMC_ADDR[4]/HOST_DATA[4], AC22 GPIO0_B[3]/EBC_BORDER0/SMC_ADDR[3]/HOST_DATA[3], AC23 GPIO0_C[0]/EBC_GDSP/SMC_DATA[8], AC24 GPIO0_C[6]/EBC_SDCE4/SMC_DATA[14], AD19 GPIO5_C[3]/EBC_SDDO[3]/SMC_DATA[3], AD20 GPIO0_B[0]/EBC_SDCE0/SMC_ADDR[0]/HOST_DATA[0], AD21 GPIO0_B[2]/EBC_SDCE2/SMC_ADDR[2]/HOST_DATA[2], AD22 GPIO0_B[4]/EBC_BORDER1/SMC_WEN, AD23 GPIO0_C[1]/EBC_GDRL/SMC_DATA[9], AD24 GPIO0_C[7]/EBC_SDCE5/SMC_DATA[15], B13 GPIO3_A[7]/SMC_ADDR[15]/HOST_DATA[15], B14 GPIO3_C[6]/SMC_ADDR[16]/HOST_DATA[16], B15 GPIO3_C[5]/SMC_ADDR[12]/HOST_DATA[12], D16 GPIO3_C[7]/SMC_ADDR[17]/HOST_DATA[17], D17 GPIO3_D[2]/HOST_CSN, D19 GPIO3_D[4]/HOST_WRN, E16 GPIO3_C[3]/SMC_ADDR[10]/HOST_DATA[10], E17 GPIO3_D[7]/SMC_ADDR[9]/HOST_DATA[9], E18 GPIO3_D[3]/HOST_RDN, F14 GPIO3_D[0]/SMC_ADDR[18]/HOST_ADDR0, F17 GPIO3_A[6]/SMC_ADDR[14]/HOST_DATA[14], R19 GPIO3_D[6]/SMC_ADDR[8]/HOST_DATA[8], W17 GPIO1_A[1]/SMC_CSN0, W18 GPIO5_C[4]/EBC_SDDO[4]/SMC_DATA[4], W19 GPIO5_D[1]/EBC_SDCLK/SMC_ADDR[6]/HOST_DATA[6], Y17 GPIO0_B[5]/EBC_VCOM/SMC_BLSN0, Y18 GPIO5_C[0]/EBC_SDDO[0]/SMC_DATA[0], Y19 GPIO5_D[0]/EBC_SDLE/SMC_ADDR[5]/HOST_DATA[5], Y20 GPIO0_C[4]/EBC_GDPWR2/SMC_DATA[12], Y21 GPIO1_A[2]/SMC_CSN1, Y22 GPIO3_D[5]/SMC_ADDR[7]/HOST_DATA[7]
part D pins: B11 GPIO4_A[6]/HOST20_DRV_VBUS, G1 XOUT24M, G2 XIN24M, G17 GPIO4_A[5]/OTG_DRV_VBUS, H1 XOUT27M, H2 XIN27M, K6 NPOR, P22 RTCINT_OUT, P23 XOUT32K, P24 XIN32K, R23 HOST11_DM, R24 HOST11_DP, T20 HOST20_ID, T23 HOST20_DM, T24 HOST20_DP, U22 HOST20_VBUS, U24 HOST20_RKELVIN, V20 OTG_ID, V23 OTG_DM, V24 OTG_DP, W22 OTG_VBUS, W24 OTG_RKELVIN
part E pins: A9 GPIO1_A[5]/EMMC_PWR_EN/PWM3, D23 GPIO3_B[7]/EMMC_DATA5, E22 GPIO3_B[0]/EMMC_CLKOUT, F21 GPIO3_C[0]/EMMC_DATA6, F22 GPIO3_B[2]/EMMC_DATA0, F23 GPIO3_B[4]/EMMC_DATA2, F24 GPIO3_B[5]/EMMC_DATA3, G21 GPIO3_C[1]/EMMC_DATA7, G23 GPIO3_B[6]/EMMC_DATA4, H21 GPIO3_B[1]/EMMC_CMD, H24 GPIO3_B[3]/EMMC_DATA1, J19 GPIO0_D[6]/FLASH_CSN5, J20 GPIO1_A[0]/FLASH_CSN7/MDDR_TQ, J21 GPIO0_A[5]/FLASH_DQS, J22 GPIO0_D[5]/FLASH_CSN4, J23 GPIO4_B[2]/FLASH_DATA[10], J24 GPIO4_B[3]/FLASH_DATA[11], K19 FLASH_WP, K20 FLASH_WRN, K21 GPIO4_B[6]/FLASH_DATA[14], K22 GPIO0_D[3]/FLASH_CSN2, K23 GPIO0_D[4]/FLASH_CSN3, K24 GPIO0_D[2]/FLASH_CSN1, L19 FLASH_DATA[6], L20 GPIO4_B[0]/FLASH_DATA[8], L21 FLASH_DATA[7], L22 FLASH_DATA[2], L23 FLASH_DATA[3], L24 GPIO0_D[7]/FLASH_CSN6, M19 GPIO4_B[7]/FLASH_DATA[15], M20 GPIO4_B[5]/FLASH_DATA[13], M21 FLASH_CLE, M22 GPIO4_B[1]/FLASH_DATA[9], M23 FLASH_DATA[5], M24 FLASH_CSN0, N19 FLASH_DATA[1], N20 FLASH_RDY, N21 FLASH_RDN, N22 GPIO4_B[4]/FLASH_DATA[12], N23 FLASH_DATA[0], N24 FLASH_DATA[4], P19 FLASH_ALE
part F pins: A6 GPIO5_D[6]/SDMMC1_PWR_EN, A7 GPIO5_D[5]/SDMMC0_PWR_EN, B10 GPIO2_A[2]/SDMMC0_DETECT_N, B24 GPIO1_D[4]/SDMMC0_DATA2, C22 GPIO2_A[0]/SDMMC0_DATA6, C23 GPIO1_D[6]/SDMMC0_DATA4, D20 GPIO1_D[2]/SDMMC0_DATA0, D22 GPIO1_D[0]/SDMMC0_CLKOUT, D24 GPIO1_C[2]/SDMMC1_CMD, E20 GPIO1_D[7]/SDMMC0_DATA5, E23 GPIO2_A[1]/SDMMC0_DATA7, G19 GPIO1_D[5]/SDMMC0_DATA3, G20 GPIO1_D[1]/SDMMC0_CMD, G22 GPIO1_D[3]/SDMMC0_DATA1, G24 GPIO1_C[7]/SDMMC1_CLKOUT, H18 GPIO1_C[5]/SDMMC1_DATA2, H19 GPIO1_C[6]/SDMMC1_DATA3, H22 GPIO1_C[3]/SDMMC1_DATA0, H23 GPIO1_C[4]/SDMMC1_DATA1
part G pins: A18 GPIO4_C[5]/RMII_CRS_DVALID/MII_RXD_VALID, A20 GPIO4_C[0]/RMII_CLKOUT/RMII_CLKIN, A22 GPIO4_C[1]/RMII_TX_EN/MII_TX_EN, B18 GPIO5_A[3]/MII_TX_CLKIN, B23 GPIO4_C[6]/RMII_RXD1/MII_RXD1, C18 GPIO4_C[4]/RMII_RX_ERR/MII_RX_ERR, C19 GPIO4_C[2]/RMII_TXD1/MII_TXD1, D11 GPIO0_A[7]/MII_MDCLK, D18 GPIO0_A[6]/MII_MD, D21 GPIO4_C[3]/RMII_TXD0/MII_TXD0, E19 GPIO4_C[7]/RMII_RXD0/MII_RXD0, K5 TRST_N, L5 TCK, L6 TDI, M6 TMS, M7 TDO
part H pins: A17 GPIO5_B[3]/HSADC_DATA6, A19 GPIO5_A[7]/HSADC_DATA2, B17 GPIO5_B[2]/HSADC_DATA5, B19 GPIO5_B[5]/HSADC_DATA8/TS_VALID, B20 GPIO5_A[5]/HSADC_DATA0, C13 GPIO5_B[6]/HSADC_DATA9/TS_FAIL, C16 GPIO5_A[4]/TS_SYNC, C17 GPIO5_B[4]/HSADC_DATA7, C20 GPIO5_B[1]/HSADC_DATA4, E21 GPIO5_B[0]/HSADC_DATA3, F18 GPIO5_A[6]/HSADC_DATA1, F19 GPIO5_B[7]/HSADC_CLKOUT/GPS_CLK
part I pins: A3 GPIO1_C[0]/UART0_CTS_N/SDMMC1_DETECT_N, A4 GPIO3_A[5]/I2S1_LRCK_TX, A5 GPIO3_A[4]/I2S1_SDO, A8 GPIO2_B[2]/UART3_SIN, A10 GPIO1_A[4]/EMMC_WRITE_PRT/SPI0_CSN1, A12 GPIO1_A[6]/I2C1_SDA, A13 GPIO2_C[5]/SPI1_CSN0, A21 GPIO2_D[2]/I2S0_LRCK_RX/MII_TX_ERR, A23 GPIO2_D[5]/I2S0_SDO1/MII_RXD3, A24 GPIO2_D[6]/I2S0_SDO2/MII_TXD2, B4 GPIO2_A[7]/UART2_RTS_N, B5 GPIO3_A[3]/I2S1_SDI, B6 GPIO3_A[1]/I2S1_SCLK, B8 GPIO5_D[3]/I2C2_SDA, B12 GPIO1_A[7]/I2C1_SCL, B16 GPIO2_C[6]/SPI1_TXD, B21 GPIO4_D[7]/I2S0_LRCK_TX1, B22 GPIO2_D[3]/I2S0_SDI/MII_COL, C4 GPIO1_C[1]/UART0_RTS_N/SDMMC1_WRITE_PRT, C5 GPIO2_A[6]/UART2_CTS_N, C6 GPIO3_A[2]/I2S1_LRCK_RX, C7 GPIO2_A[4]/UART1_SIN, C9 GPIO2_B[6]/I2C0_SDA, C14 GPIO2_C[7]/SPI1_RXD, C15 GPIO4_A[7]/SPDIF_TX, C21 GPIO2_D[4]/I2S0_SDO0/MII_RXD2, C24 GPIO2_D[7]/I2S0_SDO3/MII_TXD3, D5 GPIO1_B[7]/UART0_SOUT, D6 GPIO2_B[4]/UART3_CTS_N/I2C3_SDA, D7 GPIO3_A[0]/I2S1_CLK, D8 GPIO1_B[6]/UART0_SIN, D9 GPIO5_D[4]/I2C2_SCL, D10 GPIO2_B[7]/I2C0_SCL, D14 GPIO2_C[0]/SPI0_CLK, D15 GPIO2_C[3]/SPI0_RXD, E6 GPIO2_B[0]/UART2_SIN, E7 GPIO2_B[5]/UART3_RTS_N/I2C3_SCL, E8 GPIO2_B[1]/UART2_SOUT, E9 GPIO2_A[5]/UART1_SOUT, E14 GPIO2_C[1]/SPI0_CSN0, E15 GPIO2_C[2]/SPI0_TXD, E24 GPIO2_D[0]/I2S0_CLK/MII_RX_CLKIN, F8 GPIO2_B[3]/UART3_SOUT, F15 GPIO1_A[3]/EMMC_DETECT_N/SPI1_CSN1, F16 GPIO2_C[4]/SPI1_CLK, F20 GPIO4_D[6]/I2S0_LRCK_TX0, H20 GPIO2_D[1]/I2S0_SCLK/MII_CRS
part J pins: A1 GPIO6_A[0], A2 GPIO6_B[7], A11 GPIO6_C[2], AA23 SARADC_AIN[0], AA24 SARADC_AIN[3], B1 GPIO6_B[6], B2 GPIO6_B[5], B3 GPIO6_A[1], B7 GPIO5_D[2]/PWM1/UART1_SIR_IN, B9 GPIO2_A[3]/SDMMC0_WRITE_PRT/PWM2/UART1_SIR_OUT, C1 GPIO6_A[5], C2 GPIO6_B[4], C3 GPIO6_A[2], C8 GPIO1_B[5]/PWM0, C10 GPIO4_D[4], C11 GPIO6_C[6], C12 GPIO6_C[0], D1 GPIO6_A[6], D2 GPIO6_A[7], D3 GPIO6_B[3], D4 GPIO6_A[3], D12 GPIO4_D[0], D13 GPIO6_C[3], E1 GPIO6_B[0], E2 GPIO5_A[0], E3 GPIO6_B[2], E4 GPIO5_A[2], E5 GPIO6_A[4], E10 GPIO6_C[5], E11 GPIO4_D[1], E12 GPIO6_C[1], E13 GPIO6_C[7], F1 GPIO6_B[1], F2 GPIO0_A[1], F3 GPIO5_A[1], F4 GPIO0_A[0], F9 GPIO4_D[3], F10 GPIO4_D[2], F11 GPIO4_D[5], F12 GPIO5_D[7], F13 GPIO6_C[4], G3 GPIO0_A[2], G4 GPIO0_A[4], H3 GPIO0_A[3], H4 GPIO4_A[3], J1 GPIO4_A[0], J2 GPIO4_A[1], J3 GPIO4_A[2], J4 GPIO4_A[4], N6 BTMODE, P7 EWAKEUP_STOP, P20 VDDCORE_EFUSE, R20 EFUSE_VQPS, T7 EWAKEUP_POWER, T19 VDDIO_EFUSE, V7 TEST, V8 GPIO6_D[2], V9 GPIO6_D[0], W7 GPIO6_D[3], W8 GPIO6_D[1], Y23 SARADC_AIN[1], Y24 SARADC_AIN[2]
part K pins: AB24 VDDA_SARADC, F5 AVDD_DPLL, F6 AHVDD_APLL, F7 AHVSS_APLL, G5 DVDD_APLL, G6 AVSS_DPLL, G7 DVSS_APLL, G8 VDDIO_AP1, G9 VDDIO_AP0, G10 VDDCORE, G11 VDDIO6, G12 VDDCORE, G13 VDDIO5, G14 VDDCORE, G15 VDDIO4, G16 VDDCORE, G18 VDDIO3, H5 DVDD_DPLL, H6 DVSS_DPLL, H7 DVSS_CGPLL, J5 AVDD_CGPLL, J6 DVDD_CGPLL, J7 AVSS_CGPLL, J18 VDDCORE, K7 VDDIO0, K10 GND, K11 GND, K12 GND, K13 GND, K14 GND, K15 GND, K18 VDDIO2, L7 VDDCORE, L10 GND, L11 GND, L12 GND, L13 GND, L14 GND, L15 GND, L18 VDDCORE, M5 VSSIO_DDR0, M10 GND, M11 GND, M12 GND, M13 GND, M14 GND, M15 GND, M18 VDDIO_FLASH1, N5 VDDIO_DDR0, N7 VDDCORE, N10 GND, N11 GND, N12 GND, N13 GND, N14 GND, N15 GND, N18 VDDCORE, P5 VSSIO_DDR1, P10 GND, P11 GND, P12 GND, P13 GND, P14 GND, P15 GND, P18 VDDIO_FLASH0, P21 VDDIO_RTC, R5 VDDIO_DDR1, R7 VDDCORE, R10 GND, R11 GND, R12 GND, R13 GND, R14 GND, R15 GND, R18 VDDCORE, R21 VSSIO_UHOST11, R22 VDDIO_UHOST11, T5 VSSIO_DDR2, T18 VDDIO1, T21 HOST20_VSSA, T22 HOST_VDD25, U5 VDDIO_DDR2, U7 VDDCORE, U18 VDDCORE_RTC, U19 HOST20_DVDD, U20 HOST20_VSSAC, U21 HOST20_DVSS, U23 HOST20_VDD33, V5 VSSIO_DDR3, V10 VDDCORE, V11 VDDIO_LCD0, V12 VDDCORE, V13 VDDIO_LCD1, V14 VDDCORE, V15 VDDIO_VIP, V16 VDDCORE, V17 VDDIO_SMC0, V18 VDDIO_SMC1, V19 OTG_DVDD, V21 OTG_VSSA, V22 OTG_VDD25, W5 VDDIO_DDR3, W20 OTG_VSSAC, W21 OTG_DVSS, W23 OTG_VDD33, Y5 VSSIO_DDR4, Y6 VDDIO_DDR4, Y7 VSSIO_DDR5, Y8 VDDIO_DDR5, Y9 VSSIO_DDR6, Y10 VDDIO_DDR6
part L pins: AA1 WE_B, AA2 CAS_B, AA3 ODT1, AA4 NC3, AA5 DLL_TEST_PIN[0], AA6 DQ12, AA7 DQ13, AA8 NC4, AA9 DQ28, AA10 DQ27, AB1 A10, AB2 RAS_B, AB3 NC2, AB4 A14, AB5 DQ9, AB6 DQ10, AB7 DM3, AB8 NC5, AB9 DQ26, AB10 DQ30, AC1 A8, AC2 A13, AC3 A7, AC4 DQ8, AC5 DM1, AC6 DQS1#, AC7 DQ14, AC8 DQ24, AC9 DQS3#, AC10 DQ29, AD1 A11, AD2 A15, AD3 A9, AD4 A12, AD5 DQ11, AD6 DQS1, AD7 DQ15, AD8 DQ25, AD9 DQS3, AD10 DQ31, K1 DQ3, K2 DQ2, K3 DQ1, K4 DQ0, L1 DQS0, L2 DQS0#, L3 DQ5, L4 DQ4, M1 DQ7, M2 DQ6, M3 DQ17, M4 DM0, N1 DQ19, N2 DQ18, N3 DM2, N4 DQ16, P1 DQS2, P2 DQS2#, P3 DQ21, P4 DQ20, P6 VREF0, R1 DQ23, R2 DQ22, R3 BA0, R4 ZQ_PIN, T1 A1, T2 A0, T3 BA1, T4 BA2, T6 ANALOG_TEST_PIN, U1 A2, U2 A3, U3 NC0, U4 NC1, U6 VREF1, V1 A6, V2 CS_B0, V3 A4, V4 A5, V6 RESET, W1 CS_B1, W2 ODT0, W3 CKE1, W4 RET_EN, W6 VREF2, W9 NC6, Y1 CK, Y2 CK#, Y3 CKE0, Y4 DLL_TEST_PIN[1]
part A text: LCDC Module
part B text: VIP  Module
part C text: SRAM/EBC/HOST  Module
part D text: USB/Crystal/NPOR / Module
part E text: NAND FLASH/EMMC / Module; NAND FLASH; EMMC
part F text: SDMMC  Module
part G text: RMII/MII/JTAG  Module; JTAG
part H text: HSADC  Module
part I text: I2S/I2C/UART/SPI  Module; I2S0; SPDIF_TX; I2S1; I2C0; I2C1; I2C2; I2C3; UART0; UART1; UART2; UART3; SPI0; SPI1
part J text: GPIO/PWM/ADC  Module
part K text: POWER  Module
part L text: MEMORY  Module

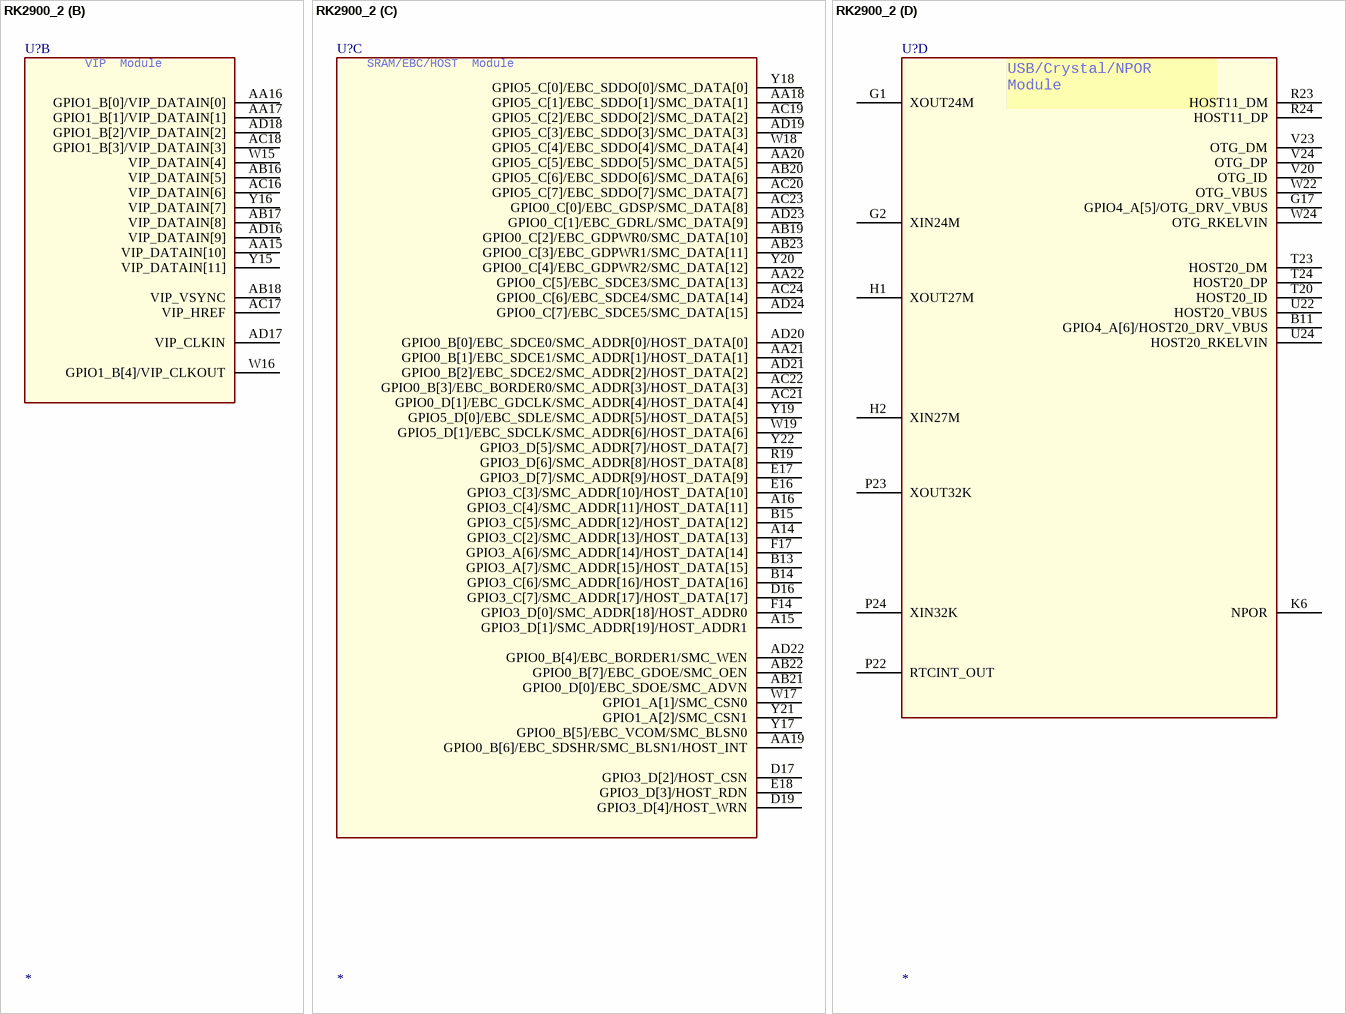
[diagram p34: symbol RK2900_2]

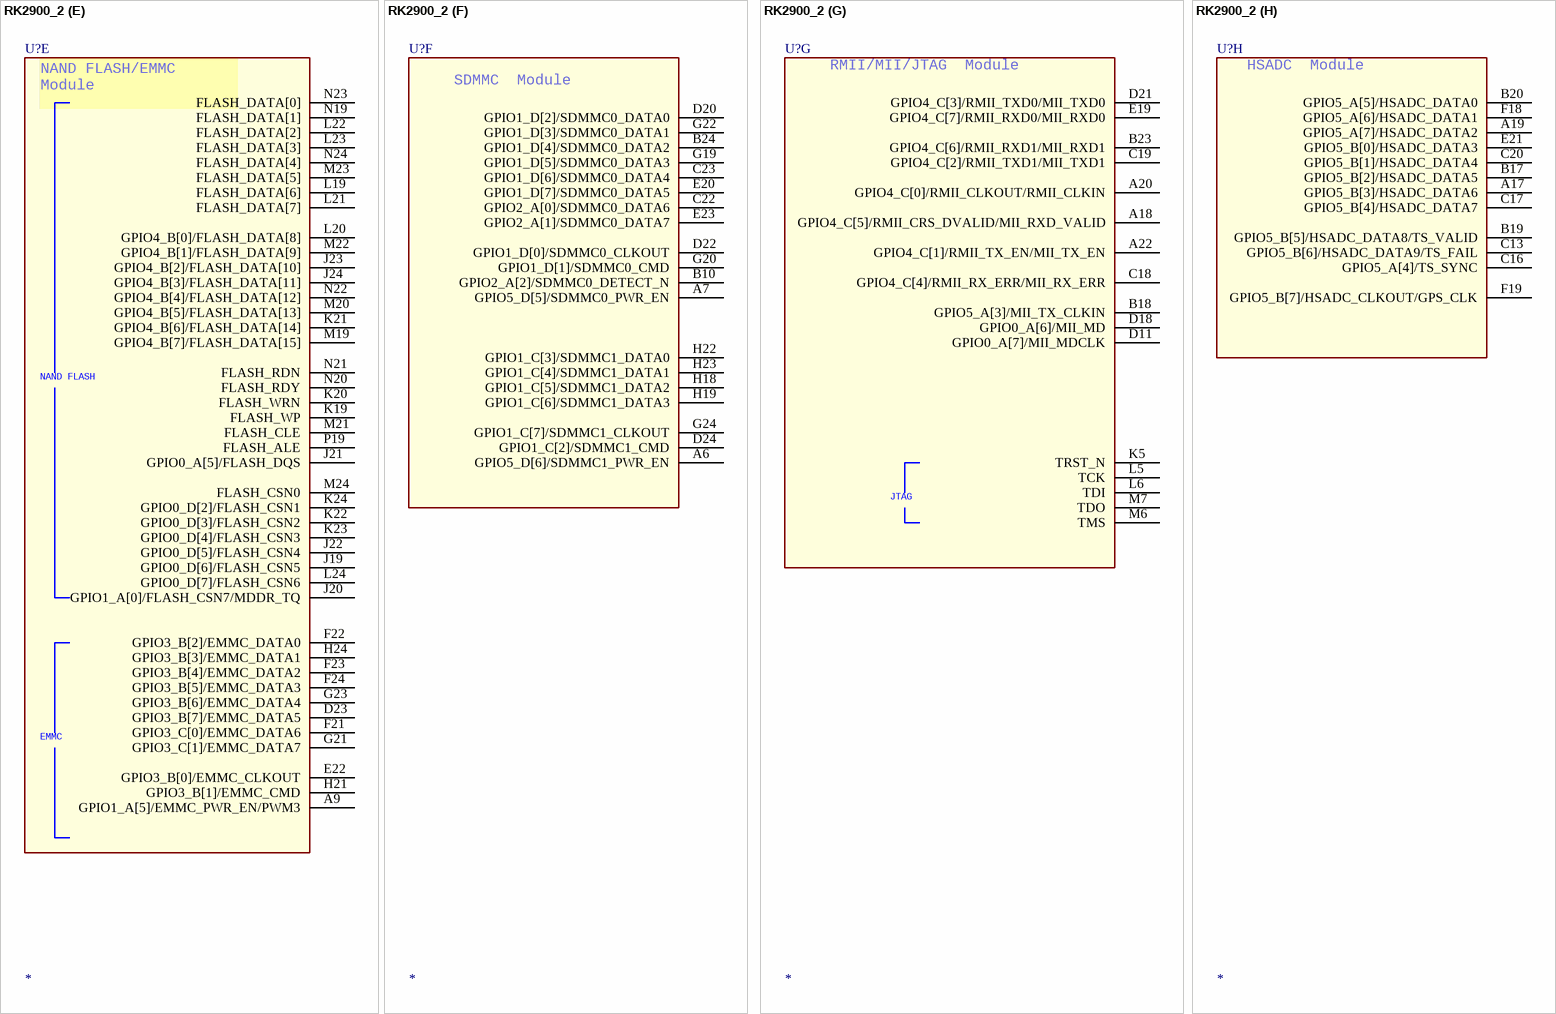
[diagram p35: symbol RK2900_2]

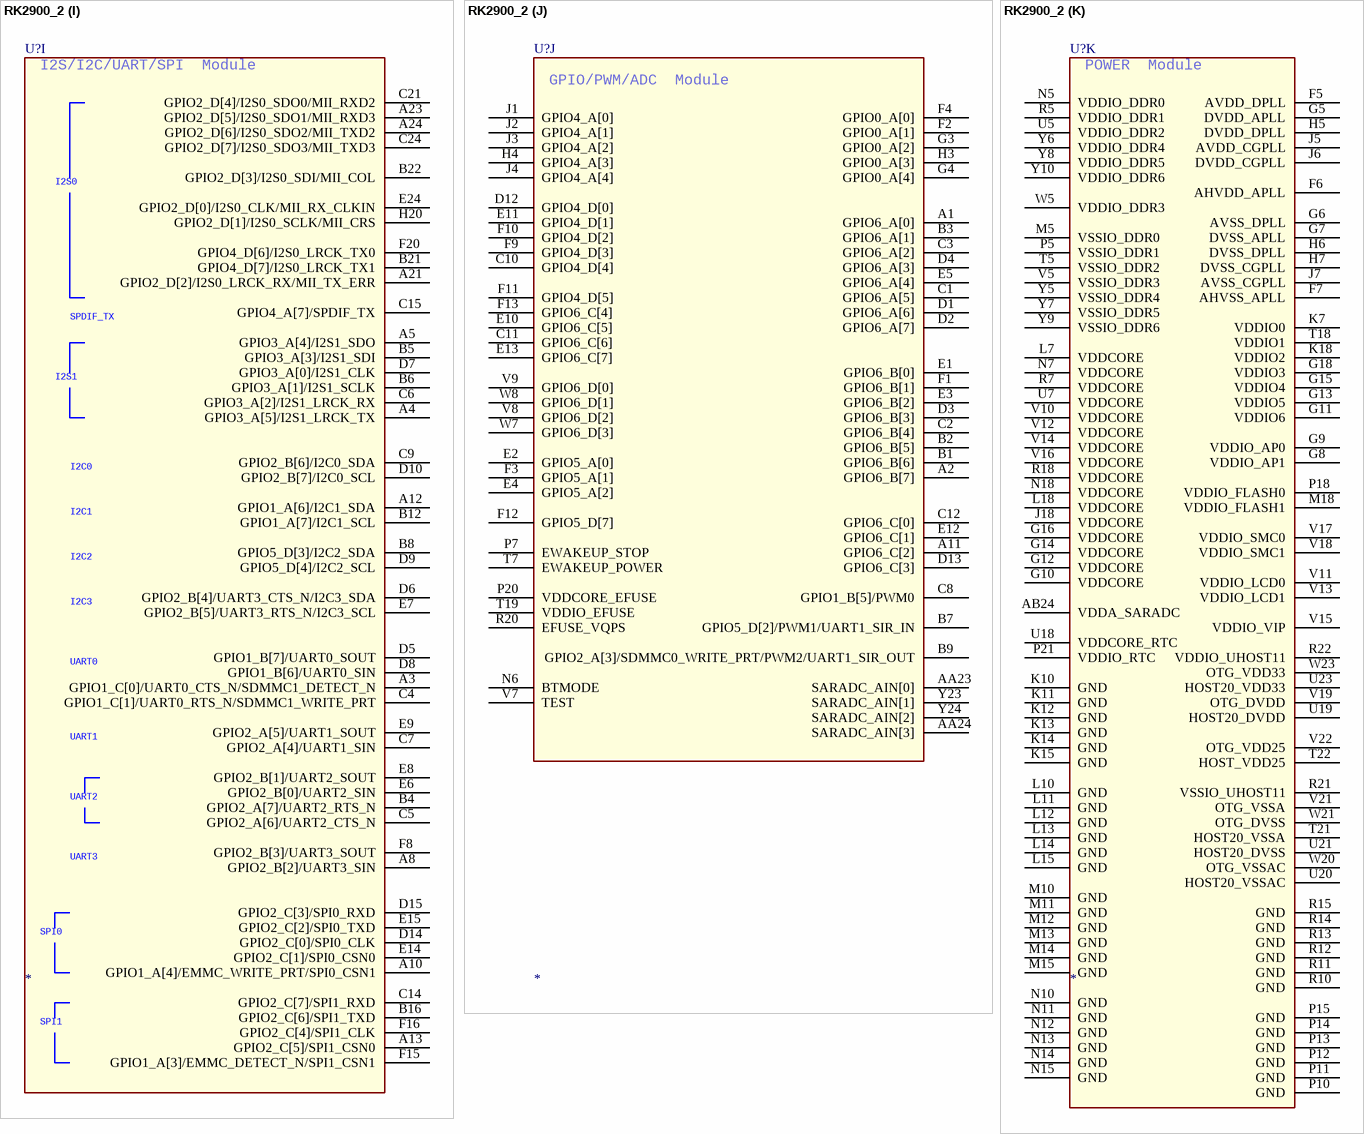
[diagram p36: symbol RK2900_2]

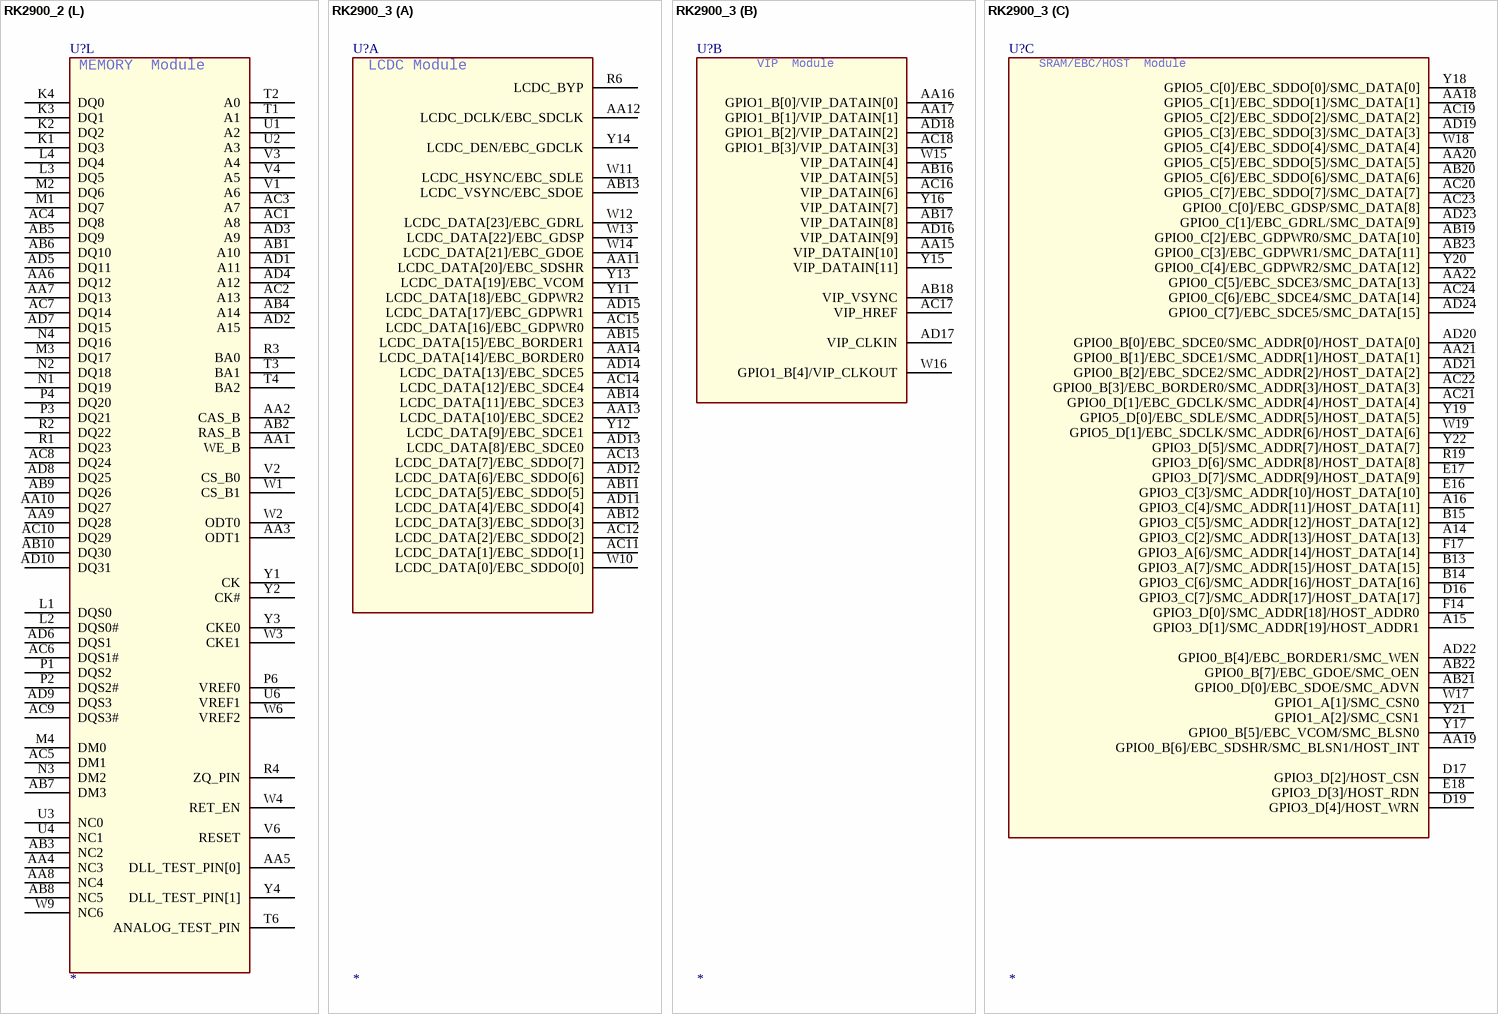
[diagram p37: symbols RK2900_2 to RK2900_3]